# Altium integrated library Altera MAX II.IntLib: 48 symbols (part 1 of 4)
Pins are listed as number, name and electrical type; pins without a type are passive.

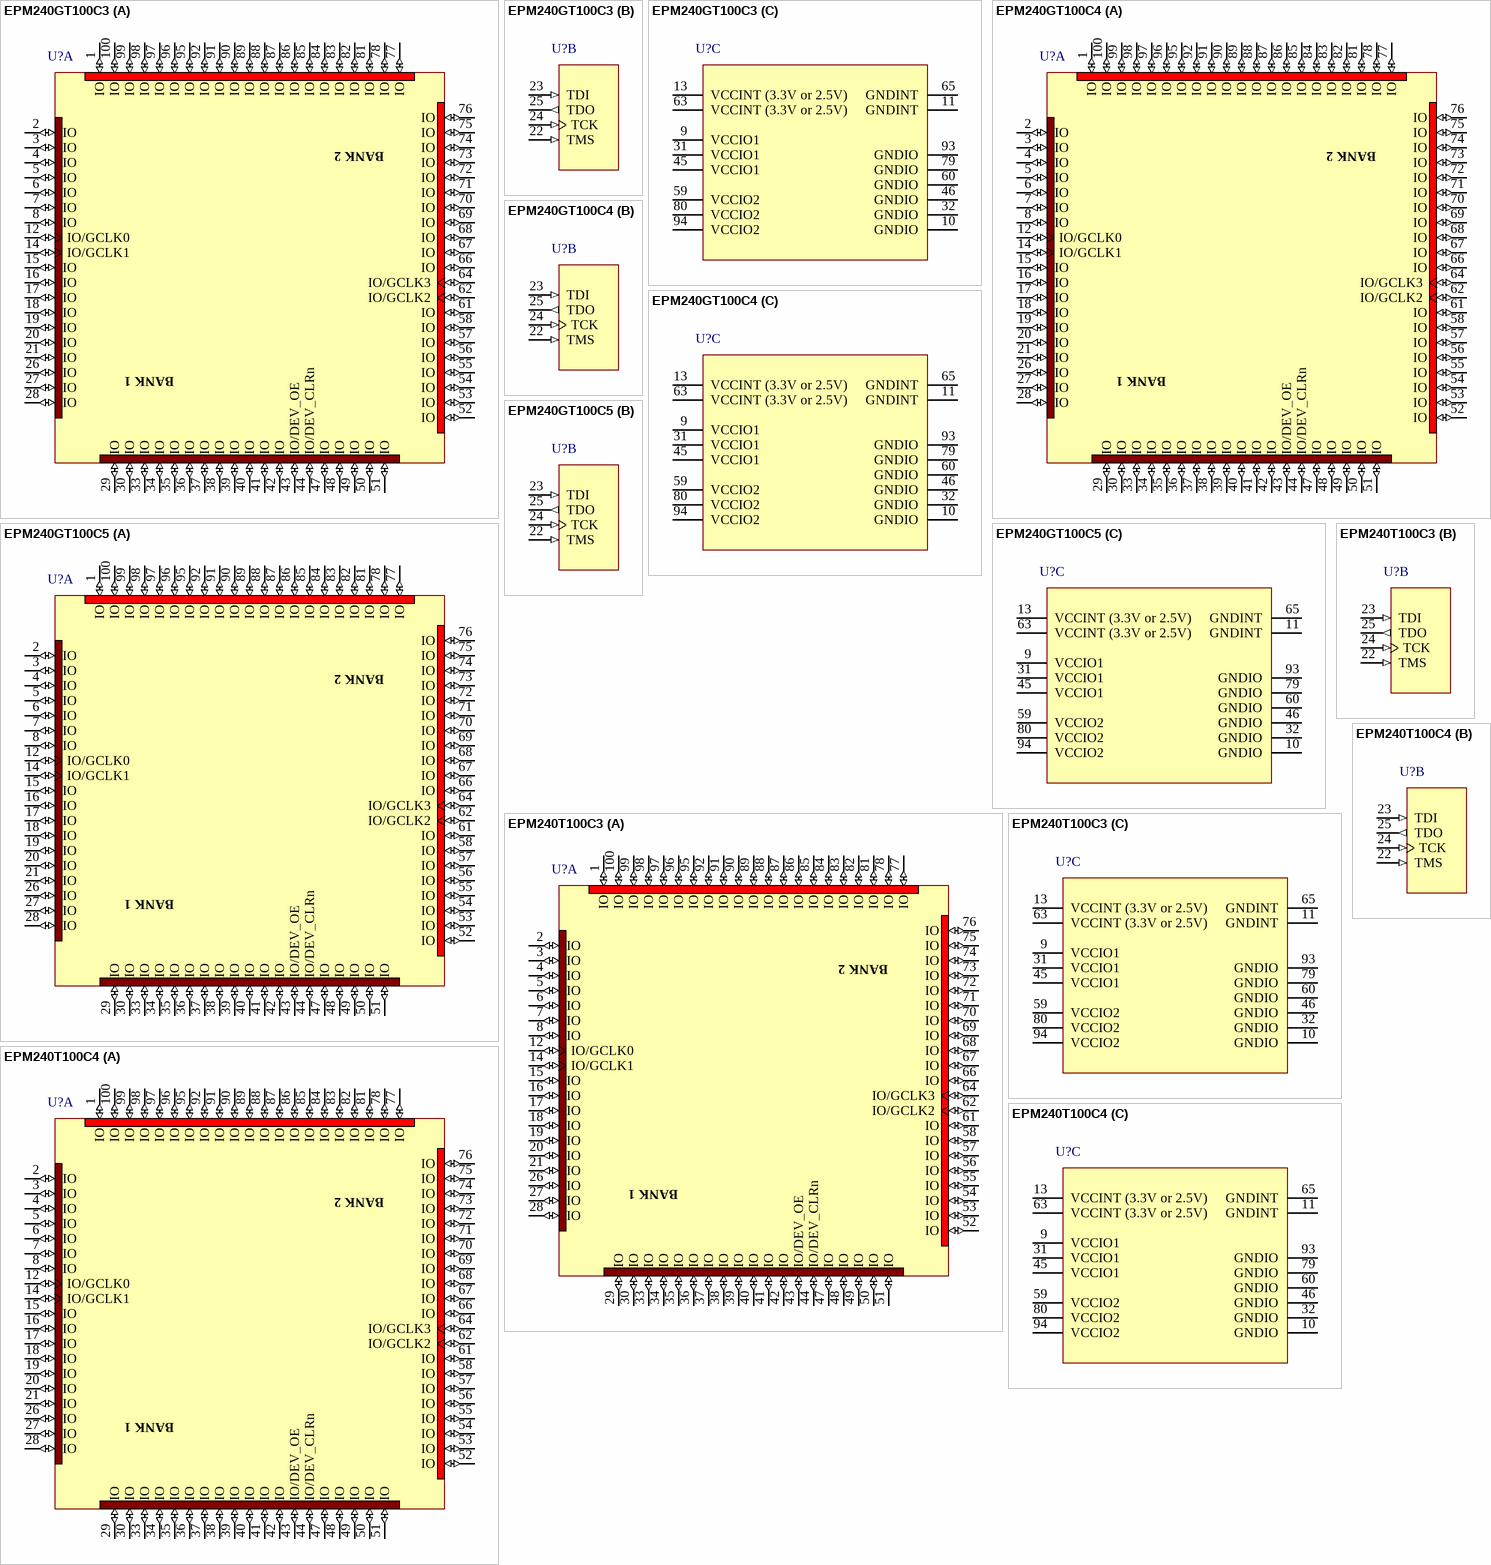
[diagram p0: symbols EPM240GT100C3 to EPM240T100C4]

## EPM240GT100C3
designator U?
MAX II 1.8V FPGA, 80 I/Os, 100-Pin Plastic TQFP, Commercial Temperature, Speed Grade 3; Note: Each set of VCCIO pins can be connected to 3.3V, 2.5V, 1.8V, or 1.5V.; Published: 15-Jul-2004; DatasheetDocument: ver1.1, Jun-2004; PackageDocument: Mar-2004; PackageReference: TQFP100; Publisher: Altium Limited; Code_JEDEC: MS-026-BDE; Code_IPC: SQFP14X14-100
footprint TQFP100 (100-Pin Plastic Thin Quad Flat Pack (TQFP))
part A pins: 1 IO (io), 2 IO (io), 3 IO (io), 4 IO (io), 5 IO (io), 6 IO (io), 7 IO (io), 8 IO (io), 12 IO/GCLK0 (io), 14 IO/GCLK1 (io), 15 IO (io), 16 IO (io), 17 IO (io), 18 IO (io), 19 IO (io), 20 IO (io), 21 IO (io), 26 IO (io), 27 IO (io), 28 IO (io), 29 IO (io), 30 IO (io), 33 IO (io), 34 IO (io), 35 IO (io), 36 IO (io), 37 IO (io), 38 IO (io), 39 IO (io), 40 IO (io), 41 IO (io), 42 IO (io), 43 IO/DEV_OE (io), 44 IO/DEV_CLRn (io), 47 IO (io), 48 IO (io), 49 IO (io), 50 IO (io), 51 IO (io), 52 IO (io), 53 IO (io), 54 IO (io), 55 IO (io), 56 IO (io), 57 IO (io), 58 IO (io), 61 IO (io), 62 IO/GCLK2 (io), 64 IO/GCLK3 (io), 66 IO (io), 67 IO (io), 68 IO (io), 69 IO (io), 70 IO (io), 71 IO (io), 72 IO (io), 73 IO (io), 74 IO (io), 75 IO (io), 76 IO (io), 77 IO (io), 78 IO (io), 81 IO (io), 82 IO (io), 83 IO (io), 84 IO (io), 85 IO (io), 86 IO (io), 87 IO (io), 88 IO (io), 89 IO (io), 90 IO (io), 91 IO (io), 92 IO (io), 95 IO (io), 96 IO (io), 97 IO (io), 98 IO (io), 99 IO (io), 100 IO (io)
part B pins: 22 TMS (in), 23 TDI (in), 24 TCK (in), 25 TDO (out)
part C pins: 9 VCCIO1 (power), 10 GNDIO (power), 11 GNDINT (power), 13 VCCINT (3.3V or 2.5V) (power), 31 VCCIO1 (power), 32 GNDIO (power), 45 VCCIO1 (power), 46 GNDIO (power), 59 VCCIO2 (power), 60 GNDIO (power), 63 VCCINT (3.3V or 2.5V) (power), 65 GNDINT (power), 79 GNDIO (power), 80 VCCIO2 (power), 93 GNDIO (power), 94 VCCIO2 (power)
part A text: BANK 2; BANK 1

## EPM240GT100C4
designator U?
MAX II 1.8V FPGA, 80 I/Os, 100-Pin Plastic TQFP, Commercial Temperature, Speed Grade 4; Note: Each set of VCCIO pins can be connected to 3.3V, 2.5V, 1.8V, or 1.5V.; Published: 15-Jul-2004; DatasheetDocument: ver1.1, Jun-2004; PackageDocument: Mar-2004; PackageReference: TQFP100; Publisher: Altium Limited; Code_JEDEC: MS-026-BDE; Code_IPC: SQFP14X14-100
footprint TQFP100 (100-Pin Plastic Thin Quad Flat Pack (TQFP))
part A pins: 1 IO (io), 2 IO (io), 3 IO (io), 4 IO (io), 5 IO (io), 6 IO (io), 7 IO (io), 8 IO (io), 12 IO/GCLK0 (io), 14 IO/GCLK1 (io), 15 IO (io), 16 IO (io), 17 IO (io), 18 IO (io), 19 IO (io), 20 IO (io), 21 IO (io), 26 IO (io), 27 IO (io), 28 IO (io), 29 IO (io), 30 IO (io), 33 IO (io), 34 IO (io), 35 IO (io), 36 IO (io), 37 IO (io), 38 IO (io), 39 IO (io), 40 IO (io), 41 IO (io), 42 IO (io), 43 IO/DEV_OE (io), 44 IO/DEV_CLRn (io), 47 IO (io), 48 IO (io), 49 IO (io), 50 IO (io), 51 IO (io), 52 IO (io), 53 IO (io), 54 IO (io), 55 IO (io), 56 IO (io), 57 IO (io), 58 IO (io), 61 IO (io), 62 IO/GCLK2 (io), 64 IO/GCLK3 (io), 66 IO (io), 67 IO (io), 68 IO (io), 69 IO (io), 70 IO (io), 71 IO (io), 72 IO (io), 73 IO (io), 74 IO (io), 75 IO (io), 76 IO (io), 77 IO (io), 78 IO (io), 81 IO (io), 82 IO (io), 83 IO (io), 84 IO (io), 85 IO (io), 86 IO (io), 87 IO (io), 88 IO (io), 89 IO (io), 90 IO (io), 91 IO (io), 92 IO (io), 95 IO (io), 96 IO (io), 97 IO (io), 98 IO (io), 99 IO (io), 100 IO (io)
part B pins: 22 TMS (in), 23 TDI (in), 24 TCK (in), 25 TDO (out)
part C pins: 9 VCCIO1 (power), 10 GNDIO (power), 11 GNDINT (power), 13 VCCINT (3.3V or 2.5V) (power), 31 VCCIO1 (power), 32 GNDIO (power), 45 VCCIO1 (power), 46 GNDIO (power), 59 VCCIO2 (power), 60 GNDIO (power), 63 VCCINT (3.3V or 2.5V) (power), 65 GNDINT (power), 79 GNDIO (power), 80 VCCIO2 (power), 93 GNDIO (power), 94 VCCIO2 (power)
part A text: BANK 2; BANK 1

## EPM240GT100C5
designator U?
MAX II 1.8V FPGA, 80 I/Os, 100-Pin Plastic TQFP, Commercial Temperature, Speed Grade 5; Note: Each set of VCCIO pins can be connected to 3.3V, 2.5V, 1.8V, or 1.5V.; Published: 15-Jul-2004; DatasheetDocument: ver1.1, Jun-2004; PackageDocument: Mar-2004; PackageReference: TQFP100; Publisher: Altium Limited; Code_JEDEC: MS-026-BDE; Code_IPC: SQFP14X14-100
footprint TQFP100 (100-Pin Plastic Thin Quad Flat Pack (TQFP))
part A pins: 1 IO (io), 2 IO (io), 3 IO (io), 4 IO (io), 5 IO (io), 6 IO (io), 7 IO (io), 8 IO (io), 12 IO/GCLK0 (io), 14 IO/GCLK1 (io), 15 IO (io), 16 IO (io), 17 IO (io), 18 IO (io), 19 IO (io), 20 IO (io), 21 IO (io), 26 IO (io), 27 IO (io), 28 IO (io), 29 IO (io), 30 IO (io), 33 IO (io), 34 IO (io), 35 IO (io), 36 IO (io), 37 IO (io), 38 IO (io), 39 IO (io), 40 IO (io), 41 IO (io), 42 IO (io), 43 IO/DEV_OE (io), 44 IO/DEV_CLRn (io), 47 IO (io), 48 IO (io), 49 IO (io), 50 IO (io), 51 IO (io), 52 IO (io), 53 IO (io), 54 IO (io), 55 IO (io), 56 IO (io), 57 IO (io), 58 IO (io), 61 IO (io), 62 IO/GCLK2 (io), 64 IO/GCLK3 (io), 66 IO (io), 67 IO (io), 68 IO (io), 69 IO (io), 70 IO (io), 71 IO (io), 72 IO (io), 73 IO (io), 74 IO (io), 75 IO (io), 76 IO (io), 77 IO (io), 78 IO (io), 81 IO (io), 82 IO (io), 83 IO (io), 84 IO (io), 85 IO (io), 86 IO (io), 87 IO (io), 88 IO (io), 89 IO (io), 90 IO (io), 91 IO (io), 92 IO (io), 95 IO (io), 96 IO (io), 97 IO (io), 98 IO (io), 99 IO (io), 100 IO (io)
part B pins: 22 TMS (in), 23 TDI (in), 24 TCK (in), 25 TDO (out)
part C pins: 9 VCCIO1 (power), 10 GNDIO (power), 11 GNDINT (power), 13 VCCINT (3.3V or 2.5V) (power), 31 VCCIO1 (power), 32 GNDIO (power), 45 VCCIO1 (power), 46 GNDIO (power), 59 VCCIO2 (power), 60 GNDIO (power), 63 VCCINT (3.3V or 2.5V) (power), 65 GNDINT (power), 79 GNDIO (power), 80 VCCIO2 (power), 93 GNDIO (power), 94 VCCIO2 (power)
part A text: BANK 2; BANK 1

## EPM240T100C3
designator U?
MAX II 2.5/3.3V FPGA, 80 I/Os, 100-Pin Plastic TQFP, Commercial Temperature, Speed Grade 3; Note: Each set of VCCIO pins can be connected to 3.3V, 2.5V, 1.8V, or 1.5V.; Published: 15-Jul-2004; DatasheetDocument: ver1.1, Jun-2004; PackageDocument: Mar-2004; PackageReference: TQFP100; Publisher: Altium Limited; Code_JEDEC: MS-026-BDE; Code_IPC: SQFP14X14-100
footprint TQFP100 (100-Pin Plastic Thin Quad Flat Pack (TQFP))
part A pins: 1 IO (io), 2 IO (io), 3 IO (io), 4 IO (io), 5 IO (io), 6 IO (io), 7 IO (io), 8 IO (io), 12 IO/GCLK0 (io), 14 IO/GCLK1 (io), 15 IO (io), 16 IO (io), 17 IO (io), 18 IO (io), 19 IO (io), 20 IO (io), 21 IO (io), 26 IO (io), 27 IO (io), 28 IO (io), 29 IO (io), 30 IO (io), 33 IO (io), 34 IO (io), 35 IO (io), 36 IO (io), 37 IO (io), 38 IO (io), 39 IO (io), 40 IO (io), 41 IO (io), 42 IO (io), 43 IO/DEV_OE (io), 44 IO/DEV_CLRn (io), 47 IO (io), 48 IO (io), 49 IO (io), 50 IO (io), 51 IO (io), 52 IO (io), 53 IO (io), 54 IO (io), 55 IO (io), 56 IO (io), 57 IO (io), 58 IO (io), 61 IO (io), 62 IO/GCLK2 (io), 64 IO/GCLK3 (io), 66 IO (io), 67 IO (io), 68 IO (io), 69 IO (io), 70 IO (io), 71 IO (io), 72 IO (io), 73 IO (io), 74 IO (io), 75 IO (io), 76 IO (io), 77 IO (io), 78 IO (io), 81 IO (io), 82 IO (io), 83 IO (io), 84 IO (io), 85 IO (io), 86 IO (io), 87 IO (io), 88 IO (io), 89 IO (io), 90 IO (io), 91 IO (io), 92 IO (io), 95 IO (io), 96 IO (io), 97 IO (io), 98 IO (io), 99 IO (io), 100 IO (io)
part B pins: 22 TMS (in), 23 TDI (in), 24 TCK (in), 25 TDO (out)
part C pins: 9 VCCIO1 (power), 10 GNDIO (power), 11 GNDINT (power), 13 VCCINT (3.3V or 2.5V) (power), 31 VCCIO1 (power), 32 GNDIO (power), 45 VCCIO1 (power), 46 GNDIO (power), 59 VCCIO2 (power), 60 GNDIO (power), 63 VCCINT (3.3V or 2.5V) (power), 65 GNDINT (power), 79 GNDIO (power), 80 VCCIO2 (power), 93 GNDIO (power), 94 VCCIO2 (power)
part A text: BANK 2; BANK 1

## EPM240T100C4
designator U?
MAX II 2.5/3.3V FPGA, 80 I/Os, 100-Pin Plastic TQFP, Commercial Temperature, Speed Grade 4; Note: Each set of VCCIO pins can be connected to 3.3V, 2.5V, 1.8V, or 1.5V.; Published: 15-Jul-2004; DatasheetDocument: ver1.1, Jun-2004; PackageDocument: Mar-2004; PackageReference: TQFP100; Publisher: Altium Limited; Code_JEDEC: MS-026-BDE; Code_IPC: SQFP14X14-100
footprint TQFP100 (100-Pin Plastic Thin Quad Flat Pack (TQFP))
part A pins: 1 IO (io), 2 IO (io), 3 IO (io), 4 IO (io), 5 IO (io), 6 IO (io), 7 IO (io), 8 IO (io), 12 IO/GCLK0 (io), 14 IO/GCLK1 (io), 15 IO (io), 16 IO (io), 17 IO (io), 18 IO (io), 19 IO (io), 20 IO (io), 21 IO (io), 26 IO (io), 27 IO (io), 28 IO (io), 29 IO (io), 30 IO (io), 33 IO (io), 34 IO (io), 35 IO (io), 36 IO (io), 37 IO (io), 38 IO (io), 39 IO (io), 40 IO (io), 41 IO (io), 42 IO (io), 43 IO/DEV_OE (io), 44 IO/DEV_CLRn (io), 47 IO (io), 48 IO (io), 49 IO (io), 50 IO (io), 51 IO (io), 52 IO (io), 53 IO (io), 54 IO (io), 55 IO (io), 56 IO (io), 57 IO (io), 58 IO (io), 61 IO (io), 62 IO/GCLK2 (io), 64 IO/GCLK3 (io), 66 IO (io), 67 IO (io), 68 IO (io), 69 IO (io), 70 IO (io), 71 IO (io), 72 IO (io), 73 IO (io), 74 IO (io), 75 IO (io), 76 IO (io), 77 IO (io), 78 IO (io), 81 IO (io), 82 IO (io), 83 IO (io), 84 IO (io), 85 IO (io), 86 IO (io), 87 IO (io), 88 IO (io), 89 IO (io), 90 IO (io), 91 IO (io), 92 IO (io), 95 IO (io), 96 IO (io), 97 IO (io), 98 IO (io), 99 IO (io), 100 IO (io)
part B pins: 22 TMS (in), 23 TDI (in), 24 TCK (in), 25 TDO (out)
part C pins: 9 VCCIO1 (power), 10 GNDIO (power), 11 GNDINT (power), 13 VCCINT (3.3V or 2.5V) (power), 31 VCCIO1 (power), 32 GNDIO (power), 45 VCCIO1 (power), 46 GNDIO (power), 59 VCCIO2 (power), 60 GNDIO (power), 63 VCCINT (3.3V or 2.5V) (power), 65 GNDINT (power), 79 GNDIO (power), 80 VCCIO2 (power), 93 GNDIO (power), 94 VCCIO2 (power)
part A text: BANK 2; BANK 1

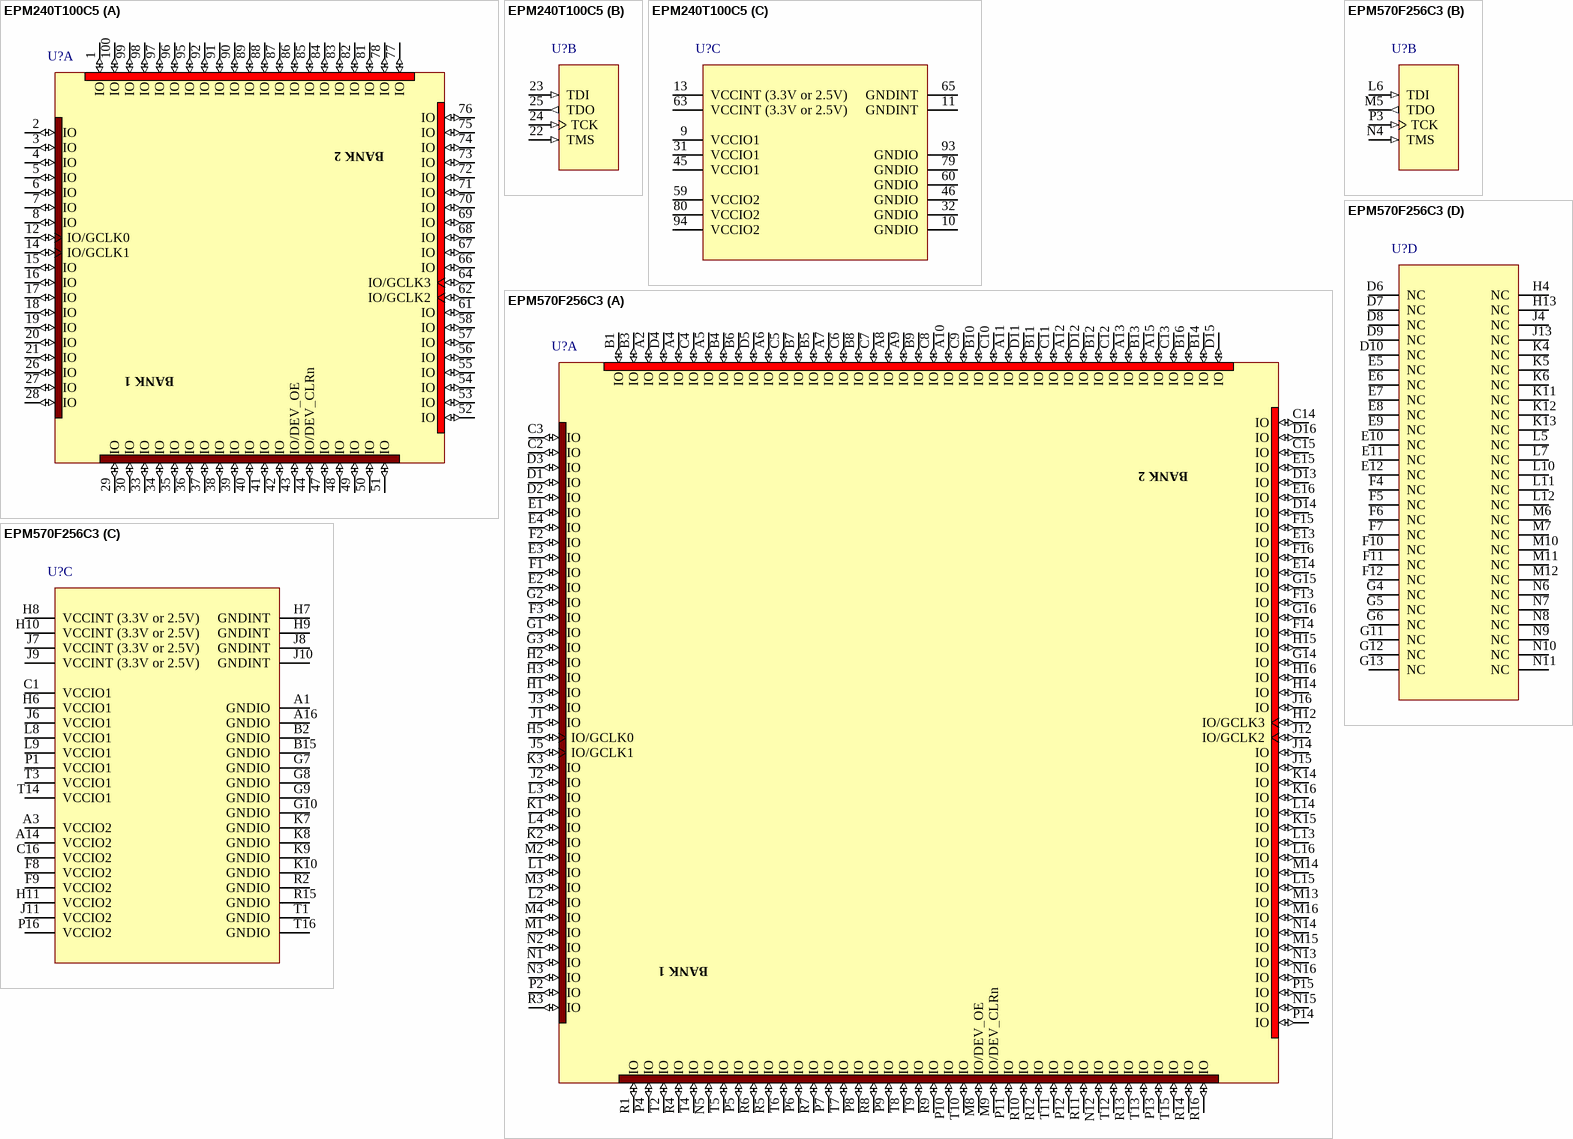
[diagram p1: symbols EPM240T100C5 to EPM570F256C3]

## EPM240T100C5
designator U?
MAX II 2.5/3.3V FPGA, 80 I/Os, 100-Pin Plastic TQFP, Commercial Temperature, Speed Grade 5; Note: Each set of VCCIO pins can be connected to 3.3V, 2.5V, 1.8V, or 1.5V.; Published: 15-Jul-2004; DatasheetDocument: ver1.1, Jun-2004; PackageDocument: Mar-2004; PackageReference: TQFP100; Publisher: Altium Limited; Code_JEDEC: MS-026-BDE; Code_IPC: SQFP14X14-100
footprint TQFP100 (100-Pin Plastic Thin Quad Flat Pack (TQFP))
part A pins: 1 IO (io), 2 IO (io), 3 IO (io), 4 IO (io), 5 IO (io), 6 IO (io), 7 IO (io), 8 IO (io), 12 IO/GCLK0 (io), 14 IO/GCLK1 (io), 15 IO (io), 16 IO (io), 17 IO (io), 18 IO (io), 19 IO (io), 20 IO (io), 21 IO (io), 26 IO (io), 27 IO (io), 28 IO (io), 29 IO (io), 30 IO (io), 33 IO (io), 34 IO (io), 35 IO (io), 36 IO (io), 37 IO (io), 38 IO (io), 39 IO (io), 40 IO (io), 41 IO (io), 42 IO (io), 43 IO/DEV_OE (io), 44 IO/DEV_CLRn (io), 47 IO (io), 48 IO (io), 49 IO (io), 50 IO (io), 51 IO (io), 52 IO (io), 53 IO (io), 54 IO (io), 55 IO (io), 56 IO (io), 57 IO (io), 58 IO (io), 61 IO (io), 62 IO/GCLK2 (io), 64 IO/GCLK3 (io), 66 IO (io), 67 IO (io), 68 IO (io), 69 IO (io), 70 IO (io), 71 IO (io), 72 IO (io), 73 IO (io), 74 IO (io), 75 IO (io), 76 IO (io), 77 IO (io), 78 IO (io), 81 IO (io), 82 IO (io), 83 IO (io), 84 IO (io), 85 IO (io), 86 IO (io), 87 IO (io), 88 IO (io), 89 IO (io), 90 IO (io), 91 IO (io), 92 IO (io), 95 IO (io), 96 IO (io), 97 IO (io), 98 IO (io), 99 IO (io), 100 IO (io)
part B pins: 22 TMS (in), 23 TDI (in), 24 TCK (in), 25 TDO (out)
part C pins: 9 VCCIO1 (power), 10 GNDIO (power), 11 GNDINT (power), 13 VCCINT (3.3V or 2.5V) (power), 31 VCCIO1 (power), 32 GNDIO (power), 45 VCCIO1 (power), 46 GNDIO (power), 59 VCCIO2 (power), 60 GNDIO (power), 63 VCCINT (3.3V or 2.5V) (power), 65 GNDINT (power), 79 GNDIO (power), 80 VCCIO2 (power), 93 GNDIO (power), 94 VCCIO2 (power)
part A text: BANK 2; BANK 1

## EPM570F256C3
designator U?
MAX II 2.5/3.3V FPGA, 160 I/Os, 256-Pin Non-Thermally Enhanced FBGA, Commercial Temperature, Speed Grade 3; Note: Each set of VCCIO pins can be connected to 3.3V, 2.5V, 1.8V, or 1.5V.; Published: 15-Jul-2004; DatasheetDocument: ver1.1, Jun-2004; PackageDocument: Mar-2004; PackageReference: FBGA256; Publisher: Altium Limited; Code_JEDEC: MS-034-AAF-1; Code_IPC: PBGA 17X17 FE256
footprint FBGA256 (256-Pin Non-Thermally Enhanced FineLine Ball-Grid Array (FBGA))
part A pins: A2 IO (io), A4 IO (io), A5 IO (io), A6 IO (io), A7 IO (io), A8 IO (io), A9 IO (io), A10 IO (io), A11 IO (io), A12 IO (io), A13 IO (io), A15 IO (io), B1 IO (io), B3 IO (io), B4 IO (io), B5 IO (io), B6 IO (io), B7 IO (io), B8 IO (io), B9 IO (io), B10 IO (io), B11 IO (io), B12 IO (io), B13 IO (io), B14 IO (io), B16 IO (io), C2 IO (io), C3 IO (io), C4 IO (io), C5 IO (io), C6 IO (io), C7 IO (io), C8 IO (io), C9 IO (io), C10 IO (io), C11 IO (io), C12 IO (io), C13 IO (io), C14 IO (io), C15 IO (io), D1 IO (io), D2 IO (io), D3 IO (io), D4 IO (io), D5 IO (io), D11 IO (io), D12 IO (io), D13 IO (io), D14 IO (io), D15 IO (io), D16 IO (io), E1 IO (io), E2 IO (io), E3 IO (io), E4 IO (io), E13 IO (io), E14 IO (io), E15 IO (io), E16 IO (io), F1 IO (io), F2 IO (io), F3 IO (io), F13 IO (io), F14 IO (io), F15 IO (io), F16 IO (io), G1 IO (io), G2 IO (io), G3 IO (io), G14 IO (io), G15 IO (io), G16 IO (io), H1 IO (io), H2 IO (io), H3 IO (io), H5 IO/GCLK0 (io), H12 IO/GCLK3 (io), H14 IO (io), H15 IO (io), H16 IO (io), J1 IO (io), J2 IO (io), J3 IO (io), J5 IO/GCLK1 (io), J12 IO/GCLK2 (io), J14 IO (io), J15 IO (io), J16 IO (io), K1 IO (io), K2 IO (io), K3 IO (io), K14 IO (io), K15 IO (io), K16 IO (io), L1 IO (io), L2 IO (io), L3 IO (io), L4 IO (io), L13 IO (io), L14 IO (io), L15 IO (io), L16 IO (io), M1 IO (io), M2 IO (io), M3 IO (io), M4 IO (io), M8 IO/DEV_OE (io), M9 IO/DEV_CLRn (io), M13 IO (io), M14 IO (io), M15 IO (io), M16 IO (io), N1 IO (io), N2 IO (io), N3 IO (io), N5 IO (io), N12 IO (io), N13 IO (io), N14 IO (io), N15 IO (io), N16 IO (io), P2 IO (io), P4 IO (io), P5 IO (io), P6 IO (io), P7 IO (io), P8 IO (io), P9 IO (io), P10 IO (io), P11 IO (io), P12 IO (io), P13 IO (io), P14 IO (io), P15 IO (io), R1 IO (io), R3 IO (io), R4 IO (io), R5 IO (io), R6 IO (io), R7 IO (io), R8 IO (io), R9 IO (io), R10 IO (io), R11 IO (io), R12 IO (io), R13 IO (io), R14 IO (io), R16 IO (io), T2 IO (io), T4 IO (io), T5 IO (io), T6 IO (io), T7 IO (io), T8 IO (io), T9 IO (io), T10 IO (io), T11 IO (io), T12 IO (io), T13 IO (io), T15 IO (io)
part B pins: L6 TDI (in), M5 TDO (out), N4 TMS (in), P3 TCK (in)
part C pins: A1 GNDIO (power), A3 VCCIO2 (power), A14 VCCIO2 (power), A16 GNDIO (power), B2 GNDIO (power), B15 GNDIO (power), C1 VCCIO1 (power), C16 VCCIO2 (power), F8 VCCIO2 (power), F9 VCCIO2 (power), G7 GNDIO (power), G8 GNDIO (power), G9 GNDIO (power), G10 GNDIO (power), H6 VCCIO1 (power), H7 GNDINT (power), H8 VCCINT (3.3V or 2.5V) (power), H9 GNDINT (power), H10 VCCINT (3.3V or 2.5V) (power), H11 VCCIO2 (power), J6 VCCIO1 (power), J7 VCCINT (3.3V or 2.5V) (power), J8 GNDINT (power), J9 VCCINT (3.3V or 2.5V) (power), J10 GNDINT (power), J11 VCCIO2 (power), K7 GNDIO (power), K8 GNDIO (power), K9 GNDIO (power), K10 GNDIO (power), L8 VCCIO1 (power), L9 VCCIO1 (power), P1 VCCIO1 (power), P16 VCCIO2 (power), R2 GNDIO (power), R15 GNDIO (power), T1 GNDIO (power), T3 VCCIO1 (power), T14 VCCIO1 (power), T16 GNDIO (power)
part D pins: D6 NC, D7 NC, D8 NC, D9 NC, D10 NC, E5 NC, E6 NC, E7 NC, E8 NC, E9 NC, E10 NC, E11 NC, E12 NC, F4 NC, F5 NC, F6 NC, F7 NC, F10 NC, F11 NC, F12 NC, G4 NC, G5 NC, G6 NC, G11 NC, G12 NC, G13 NC, H4 NC, H13 NC, J4 NC, J13 NC, K4 NC, K5 NC, K6 NC, K11 NC, K12 NC, K13 NC, L5 NC, L7 NC, L10 NC, L11 NC, L12 NC, M6 NC, M7 NC, M10 NC, M11 NC, M12 NC, N6 NC, N7 NC, N8 NC, N9 NC, N10 NC, N11 NC
part A text: BANK 2; BANK 1

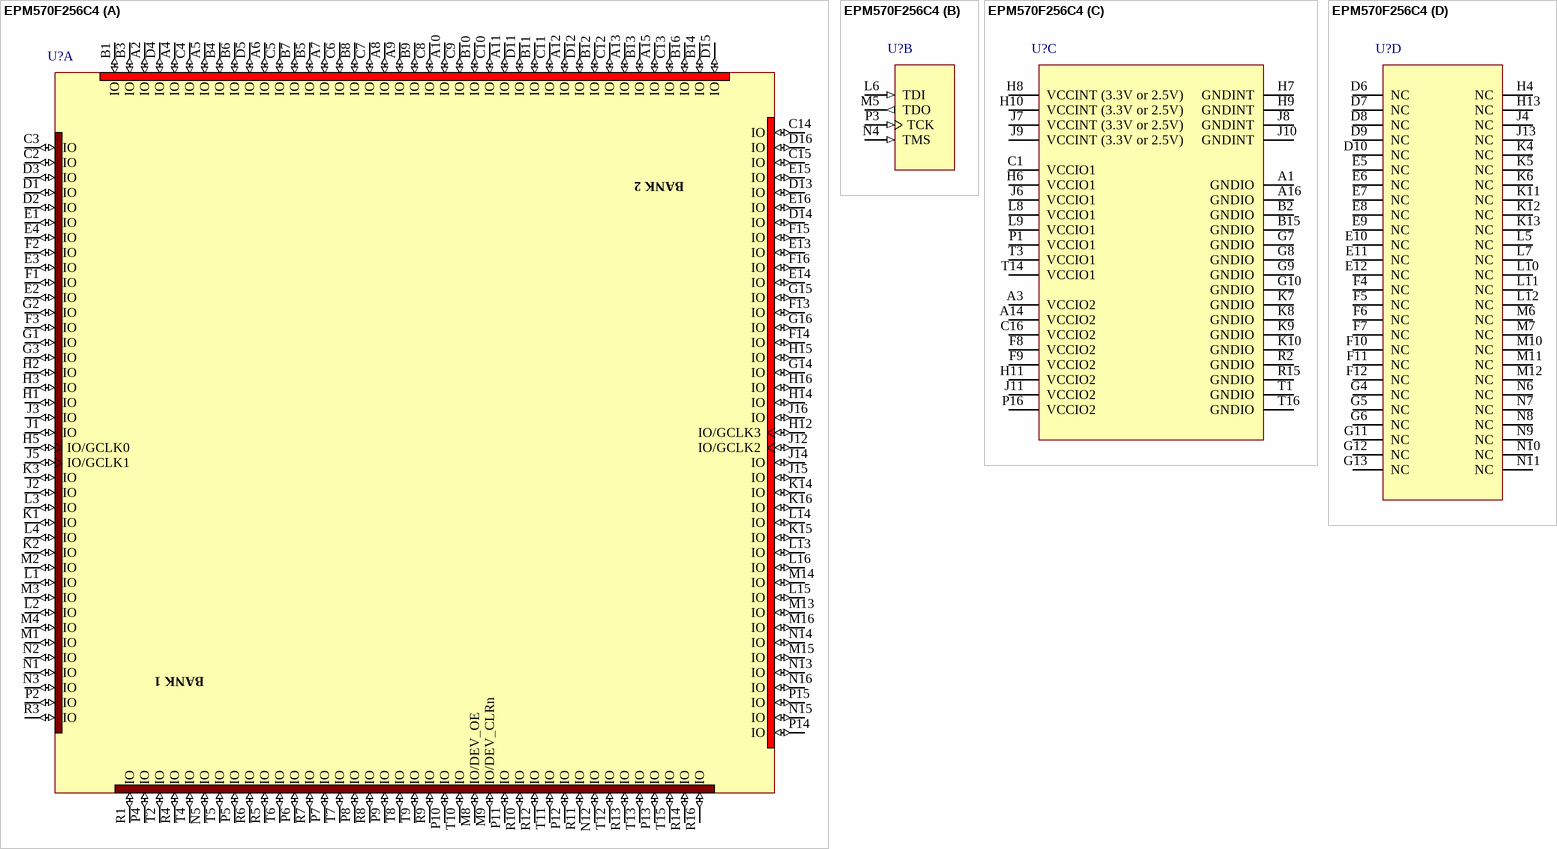
[diagram p2: symbol EPM570F256C4]

## EPM570F256C4
designator U?
MAX II 2.5/3.3V FPGA, 160 I/Os, 256-Pin Non-Thermally Enhanced FBGA, Commercial Temperature, Speed Grade 4; Note: Each set of VCCIO pins can be connected to 3.3V, 2.5V, 1.8V, or 1.5V.; Published: 15-Jul-2004; DatasheetDocument: ver1.1, Jun-2004; PackageDocument: Mar-2004; PackageReference: FBGA256; Publisher: Altium Limited; Code_JEDEC: MS-034-AAF-1; Code_IPC: PBGA 17X17 FE256
footprint FBGA256 (256-Pin Non-Thermally Enhanced FineLine Ball-Grid Array (FBGA))
part A pins: A2 IO (io), A4 IO (io), A5 IO (io), A6 IO (io), A7 IO (io), A8 IO (io), A9 IO (io), A10 IO (io), A11 IO (io), A12 IO (io), A13 IO (io), A15 IO (io), B1 IO (io), B3 IO (io), B4 IO (io), B5 IO (io), B6 IO (io), B7 IO (io), B8 IO (io), B9 IO (io), B10 IO (io), B11 IO (io), B12 IO (io), B13 IO (io), B14 IO (io), B16 IO (io), C2 IO (io), C3 IO (io), C4 IO (io), C5 IO (io), C6 IO (io), C7 IO (io), C8 IO (io), C9 IO (io), C10 IO (io), C11 IO (io), C12 IO (io), C13 IO (io), C14 IO (io), C15 IO (io), D1 IO (io), D2 IO (io), D3 IO (io), D4 IO (io), D5 IO (io), D11 IO (io), D12 IO (io), D13 IO (io), D14 IO (io), D15 IO (io), D16 IO (io), E1 IO (io), E2 IO (io), E3 IO (io), E4 IO (io), E13 IO (io), E14 IO (io), E15 IO (io), E16 IO (io), F1 IO (io), F2 IO (io), F3 IO (io), F13 IO (io), F14 IO (io), F15 IO (io), F16 IO (io), G1 IO (io), G2 IO (io), G3 IO (io), G14 IO (io), G15 IO (io), G16 IO (io), H1 IO (io), H2 IO (io), H3 IO (io), H5 IO/GCLK0 (io), H12 IO/GCLK3 (io), H14 IO (io), H15 IO (io), H16 IO (io), J1 IO (io), J2 IO (io), J3 IO (io), J5 IO/GCLK1 (io), J12 IO/GCLK2 (io), J14 IO (io), J15 IO (io), J16 IO (io), K1 IO (io), K2 IO (io), K3 IO (io), K14 IO (io), K15 IO (io), K16 IO (io), L1 IO (io), L2 IO (io), L3 IO (io), L4 IO (io), L13 IO (io), L14 IO (io), L15 IO (io), L16 IO (io), M1 IO (io), M2 IO (io), M3 IO (io), M4 IO (io), M8 IO/DEV_OE (io), M9 IO/DEV_CLRn (io), M13 IO (io), M14 IO (io), M15 IO (io), M16 IO (io), N1 IO (io), N2 IO (io), N3 IO (io), N5 IO (io), N12 IO (io), N13 IO (io), N14 IO (io), N15 IO (io), N16 IO (io), P2 IO (io), P4 IO (io), P5 IO (io), P6 IO (io), P7 IO (io), P8 IO (io), P9 IO (io), P10 IO (io), P11 IO (io), P12 IO (io), P13 IO (io), P14 IO (io), P15 IO (io), R1 IO (io), R3 IO (io), R4 IO (io), R5 IO (io), R6 IO (io), R7 IO (io), R8 IO (io), R9 IO (io), R10 IO (io), R11 IO (io), R12 IO (io), R13 IO (io), R14 IO (io), R16 IO (io), T2 IO (io), T4 IO (io), T5 IO (io), T6 IO (io), T7 IO (io), T8 IO (io), T9 IO (io), T10 IO (io), T11 IO (io), T12 IO (io), T13 IO (io), T15 IO (io)
part B pins: L6 TDI (in), M5 TDO (out), N4 TMS (in), P3 TCK (in)
part C pins: A1 GNDIO (power), A3 VCCIO2 (power), A14 VCCIO2 (power), A16 GNDIO (power), B2 GNDIO (power), B15 GNDIO (power), C1 VCCIO1 (power), C16 VCCIO2 (power), F8 VCCIO2 (power), F9 VCCIO2 (power), G7 GNDIO (power), G8 GNDIO (power), G9 GNDIO (power), G10 GNDIO (power), H6 VCCIO1 (power), H7 GNDINT (power), H8 VCCINT (3.3V or 2.5V) (power), H9 GNDINT (power), H10 VCCINT (3.3V or 2.5V) (power), H11 VCCIO2 (power), J6 VCCIO1 (power), J7 VCCINT (3.3V or 2.5V) (power), J8 GNDINT (power), J9 VCCINT (3.3V or 2.5V) (power), J10 GNDINT (power), J11 VCCIO2 (power), K7 GNDIO (power), K8 GNDIO (power), K9 GNDIO (power), K10 GNDIO (power), L8 VCCIO1 (power), L9 VCCIO1 (power), P1 VCCIO1 (power), P16 VCCIO2 (power), R2 GNDIO (power), R15 GNDIO (power), T1 GNDIO (power), T3 VCCIO1 (power), T14 VCCIO1 (power), T16 GNDIO (power)
part D pins: D6 NC, D7 NC, D8 NC, D9 NC, D10 NC, E5 NC, E6 NC, E7 NC, E8 NC, E9 NC, E10 NC, E11 NC, E12 NC, F4 NC, F5 NC, F6 NC, F7 NC, F10 NC, F11 NC, F12 NC, G4 NC, G5 NC, G6 NC, G11 NC, G12 NC, G13 NC, H4 NC, H13 NC, J4 NC, J13 NC, K4 NC, K5 NC, K6 NC, K11 NC, K12 NC, K13 NC, L5 NC, L7 NC, L10 NC, L11 NC, L12 NC, M6 NC, M7 NC, M10 NC, M11 NC, M12 NC, N6 NC, N7 NC, N8 NC, N9 NC, N10 NC, N11 NC
part A text: BANK 2; BANK 1

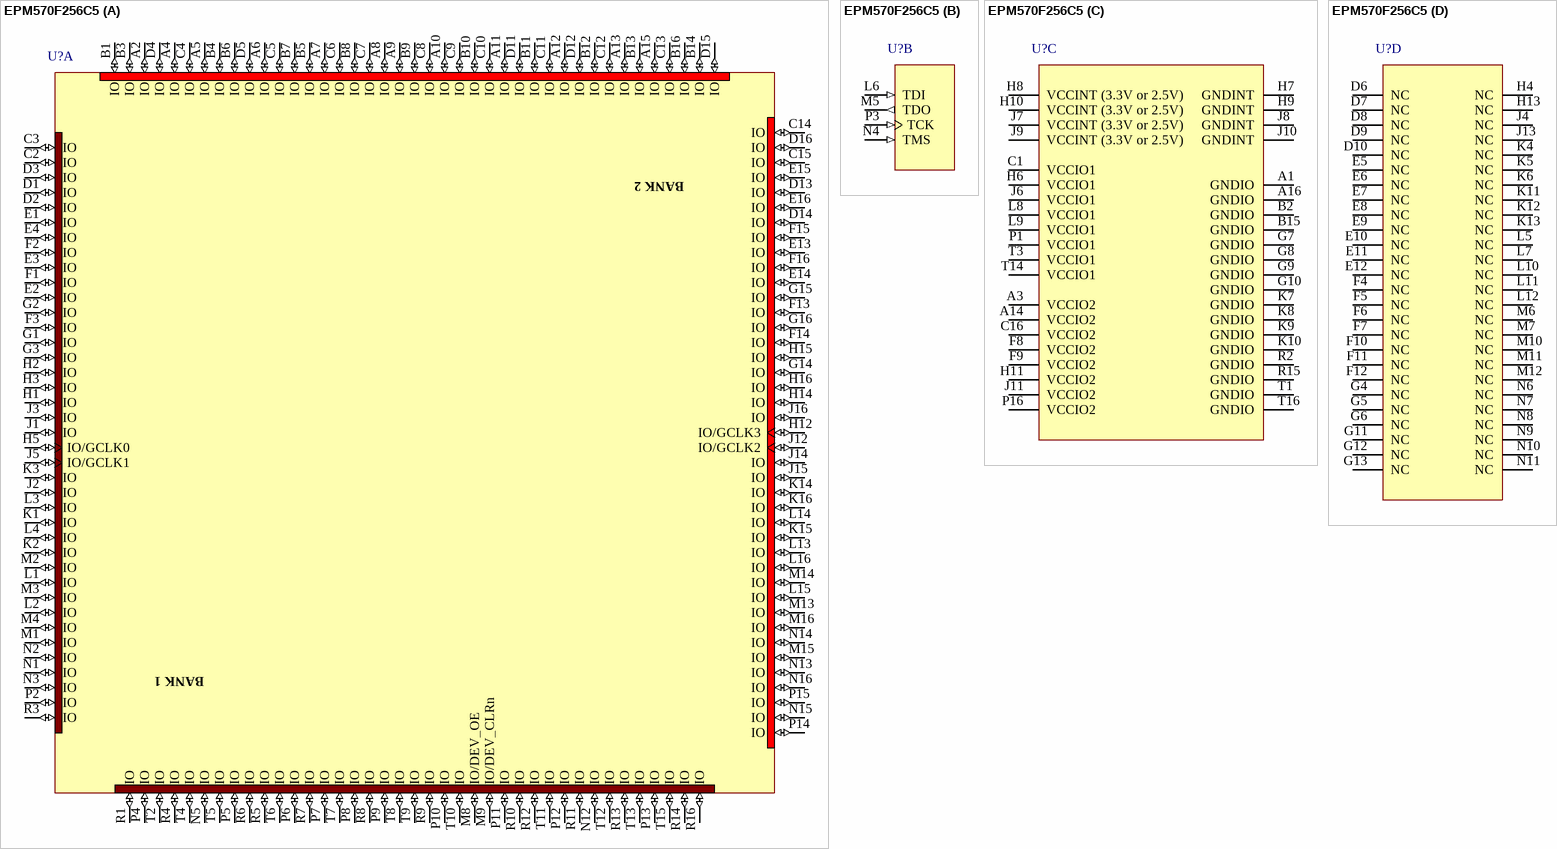
[diagram p3: symbol EPM570F256C5]

## EPM570F256C5
designator U?
MAX II 2.5/3.3V FPGA, 160 I/Os, 256-Pin Non-Thermally Enhanced FBGA, Commercial Temperature, Speed Grade 5; Note: Each set of VCCIO pins can be connected to 3.3V, 2.5V, 1.8V, or 1.5V.; Published: 15-Jul-2004; DatasheetDocument: ver1.1, Jun-2004; PackageDocument: Mar-2004; PackageReference: FBGA256; Publisher: Altium Limited; Code_JEDEC: MS-034-AAF-1; Code_IPC: PBGA 17X17 FE256
footprint FBGA256 (256-Pin Non-Thermally Enhanced FineLine Ball-Grid Array (FBGA))
part A pins: A2 IO (io), A4 IO (io), A5 IO (io), A6 IO (io), A7 IO (io), A8 IO (io), A9 IO (io), A10 IO (io), A11 IO (io), A12 IO (io), A13 IO (io), A15 IO (io), B1 IO (io), B3 IO (io), B4 IO (io), B5 IO (io), B6 IO (io), B7 IO (io), B8 IO (io), B9 IO (io), B10 IO (io), B11 IO (io), B12 IO (io), B13 IO (io), B14 IO (io), B16 IO (io), C2 IO (io), C3 IO (io), C4 IO (io), C5 IO (io), C6 IO (io), C7 IO (io), C8 IO (io), C9 IO (io), C10 IO (io), C11 IO (io), C12 IO (io), C13 IO (io), C14 IO (io), C15 IO (io), D1 IO (io), D2 IO (io), D3 IO (io), D4 IO (io), D5 IO (io), D11 IO (io), D12 IO (io), D13 IO (io), D14 IO (io), D15 IO (io), D16 IO (io), E1 IO (io), E2 IO (io), E3 IO (io), E4 IO (io), E13 IO (io), E14 IO (io), E15 IO (io), E16 IO (io), F1 IO (io), F2 IO (io), F3 IO (io), F13 IO (io), F14 IO (io), F15 IO (io), F16 IO (io), G1 IO (io), G2 IO (io), G3 IO (io), G14 IO (io), G15 IO (io), G16 IO (io), H1 IO (io), H2 IO (io), H3 IO (io), H5 IO/GCLK0 (io), H12 IO/GCLK3 (io), H14 IO (io), H15 IO (io), H16 IO (io), J1 IO (io), J2 IO (io), J3 IO (io), J5 IO/GCLK1 (io), J12 IO/GCLK2 (io), J14 IO (io), J15 IO (io), J16 IO (io), K1 IO (io), K2 IO (io), K3 IO (io), K14 IO (io), K15 IO (io), K16 IO (io), L1 IO (io), L2 IO (io), L3 IO (io), L4 IO (io), L13 IO (io), L14 IO (io), L15 IO (io), L16 IO (io), M1 IO (io), M2 IO (io), M3 IO (io), M4 IO (io), M8 IO/DEV_OE (io), M9 IO/DEV_CLRn (io), M13 IO (io), M14 IO (io), M15 IO (io), M16 IO (io), N1 IO (io), N2 IO (io), N3 IO (io), N5 IO (io), N12 IO (io), N13 IO (io), N14 IO (io), N15 IO (io), N16 IO (io), P2 IO (io), P4 IO (io), P5 IO (io), P6 IO (io), P7 IO (io), P8 IO (io), P9 IO (io), P10 IO (io), P11 IO (io), P12 IO (io), P13 IO (io), P14 IO (io), P15 IO (io), R1 IO (io), R3 IO (io), R4 IO (io), R5 IO (io), R6 IO (io), R7 IO (io), R8 IO (io), R9 IO (io), R10 IO (io), R11 IO (io), R12 IO (io), R13 IO (io), R14 IO (io), R16 IO (io), T2 IO (io), T4 IO (io), T5 IO (io), T6 IO (io), T7 IO (io), T8 IO (io), T9 IO (io), T10 IO (io), T11 IO (io), T12 IO (io), T13 IO (io), T15 IO (io)
part B pins: L6 TDI (in), M5 TDO (out), N4 TMS (in), P3 TCK (in)
part C pins: A1 GNDIO (power), A3 VCCIO2 (power), A14 VCCIO2 (power), A16 GNDIO (power), B2 GNDIO (power), B15 GNDIO (power), C1 VCCIO1 (power), C16 VCCIO2 (power), F8 VCCIO2 (power), F9 VCCIO2 (power), G7 GNDIO (power), G8 GNDIO (power), G9 GNDIO (power), G10 GNDIO (power), H6 VCCIO1 (power), H7 GNDINT (power), H8 VCCINT (3.3V or 2.5V) (power), H9 GNDINT (power), H10 VCCINT (3.3V or 2.5V) (power), H11 VCCIO2 (power), J6 VCCIO1 (power), J7 VCCINT (3.3V or 2.5V) (power), J8 GNDINT (power), J9 VCCINT (3.3V or 2.5V) (power), J10 GNDINT (power), J11 VCCIO2 (power), K7 GNDIO (power), K8 GNDIO (power), K9 GNDIO (power), K10 GNDIO (power), L8 VCCIO1 (power), L9 VCCIO1 (power), P1 VCCIO1 (power), P16 VCCIO2 (power), R2 GNDIO (power), R15 GNDIO (power), T1 GNDIO (power), T3 VCCIO1 (power), T14 VCCIO1 (power), T16 GNDIO (power)
part D pins: D6 NC, D7 NC, D8 NC, D9 NC, D10 NC, E5 NC, E6 NC, E7 NC, E8 NC, E9 NC, E10 NC, E11 NC, E12 NC, F4 NC, F5 NC, F6 NC, F7 NC, F10 NC, F11 NC, F12 NC, G4 NC, G5 NC, G6 NC, G11 NC, G12 NC, G13 NC, H4 NC, H13 NC, J4 NC, J13 NC, K4 NC, K5 NC, K6 NC, K11 NC, K12 NC, K13 NC, L5 NC, L7 NC, L10 NC, L11 NC, L12 NC, M6 NC, M7 NC, M10 NC, M11 NC, M12 NC, N6 NC, N7 NC, N8 NC, N9 NC, N10 NC, N11 NC
part A text: BANK 2; BANK 1

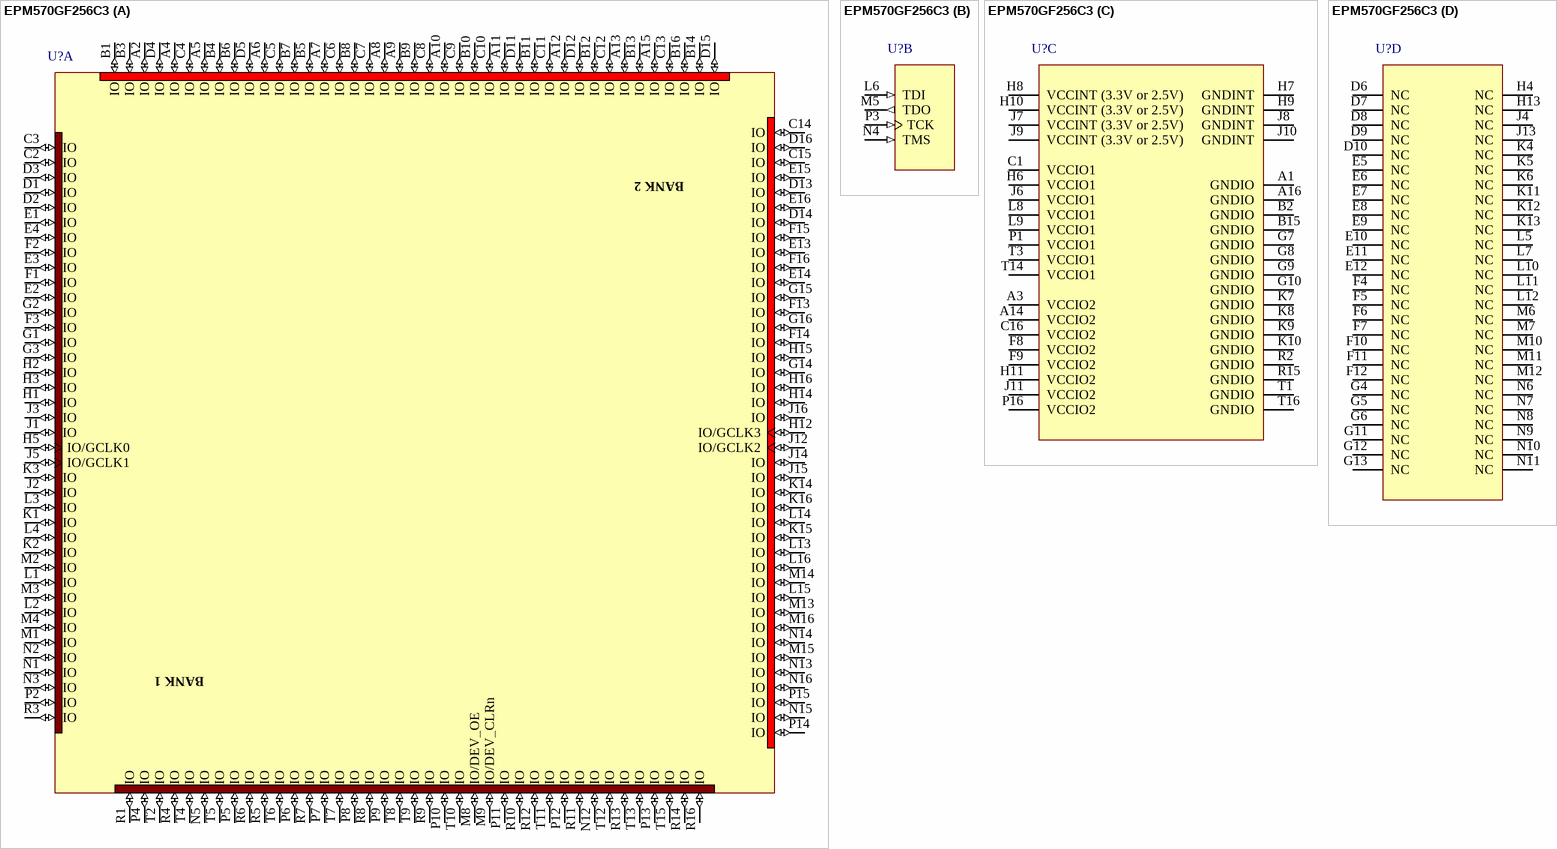
[diagram p4: symbol EPM570GF256C3]

## EPM570GF256C3
designator U?
MAX II 1.8V FPGA, 160 I/Os, 256-Pin Non-Thermally Enhanced FBGA, Commercial Temperature, Speed Grade 3; Note: Each set of VCCIO pins can be connected to 3.3V, 2.5V, 1.8V, or 1.5V.; Published: 15-Jul-2004; DatasheetDocument: ver1.1, Jun-2004; PackageDocument: Mar-2004; PackageReference: FBGA256; Publisher: Altium Limited; Code_JEDEC: MS-034-AAF-1; Code_IPC: PBGA 17X17 FE256
footprint FBGA256 (256-Pin Non-Thermally Enhanced FineLine Ball-Grid Array (FBGA))
part A pins: A2 IO (io), A4 IO (io), A5 IO (io), A6 IO (io), A7 IO (io), A8 IO (io), A9 IO (io), A10 IO (io), A11 IO (io), A12 IO (io), A13 IO (io), A15 IO (io), B1 IO (io), B3 IO (io), B4 IO (io), B5 IO (io), B6 IO (io), B7 IO (io), B8 IO (io), B9 IO (io), B10 IO (io), B11 IO (io), B12 IO (io), B13 IO (io), B14 IO (io), B16 IO (io), C2 IO (io), C3 IO (io), C4 IO (io), C5 IO (io), C6 IO (io), C7 IO (io), C8 IO (io), C9 IO (io), C10 IO (io), C11 IO (io), C12 IO (io), C13 IO (io), C14 IO (io), C15 IO (io), D1 IO (io), D2 IO (io), D3 IO (io), D4 IO (io), D5 IO (io), D11 IO (io), D12 IO (io), D13 IO (io), D14 IO (io), D15 IO (io), D16 IO (io), E1 IO (io), E2 IO (io), E3 IO (io), E4 IO (io), E13 IO (io), E14 IO (io), E15 IO (io), E16 IO (io), F1 IO (io), F2 IO (io), F3 IO (io), F13 IO (io), F14 IO (io), F15 IO (io), F16 IO (io), G1 IO (io), G2 IO (io), G3 IO (io), G14 IO (io), G15 IO (io), G16 IO (io), H1 IO (io), H2 IO (io), H3 IO (io), H5 IO/GCLK0 (io), H12 IO/GCLK3 (io), H14 IO (io), H15 IO (io), H16 IO (io), J1 IO (io), J2 IO (io), J3 IO (io), J5 IO/GCLK1 (io), J12 IO/GCLK2 (io), J14 IO (io), J15 IO (io), J16 IO (io), K1 IO (io), K2 IO (io), K3 IO (io), K14 IO (io), K15 IO (io), K16 IO (io), L1 IO (io), L2 IO (io), L3 IO (io), L4 IO (io), L13 IO (io), L14 IO (io), L15 IO (io), L16 IO (io), M1 IO (io), M2 IO (io), M3 IO (io), M4 IO (io), M8 IO/DEV_OE (io), M9 IO/DEV_CLRn (io), M13 IO (io), M14 IO (io), M15 IO (io), M16 IO (io), N1 IO (io), N2 IO (io), N3 IO (io), N5 IO (io), N12 IO (io), N13 IO (io), N14 IO (io), N15 IO (io), N16 IO (io), P2 IO (io), P4 IO (io), P5 IO (io), P6 IO (io), P7 IO (io), P8 IO (io), P9 IO (io), P10 IO (io), P11 IO (io), P12 IO (io), P13 IO (io), P14 IO (io), P15 IO (io), R1 IO (io), R3 IO (io), R4 IO (io), R5 IO (io), R6 IO (io), R7 IO (io), R8 IO (io), R9 IO (io), R10 IO (io), R11 IO (io), R12 IO (io), R13 IO (io), R14 IO (io), R16 IO (io), T2 IO (io), T4 IO (io), T5 IO (io), T6 IO (io), T7 IO (io), T8 IO (io), T9 IO (io), T10 IO (io), T11 IO (io), T12 IO (io), T13 IO (io), T15 IO (io)
part B pins: L6 TDI (in), M5 TDO (out), N4 TMS (in), P3 TCK (in)
part C pins: A1 GNDIO (power), A3 VCCIO2 (power), A14 VCCIO2 (power), A16 GNDIO (power), B2 GNDIO (power), B15 GNDIO (power), C1 VCCIO1 (power), C16 VCCIO2 (power), F8 VCCIO2 (power), F9 VCCIO2 (power), G7 GNDIO (power), G8 GNDIO (power), G9 GNDIO (power), G10 GNDIO (power), H6 VCCIO1 (power), H7 GNDINT (power), H8 VCCINT (3.3V or 2.5V) (power), H9 GNDINT (power), H10 VCCINT (3.3V or 2.5V) (power), H11 VCCIO2 (power), J6 VCCIO1 (power), J7 VCCINT (3.3V or 2.5V) (power), J8 GNDINT (power), J9 VCCINT (3.3V or 2.5V) (power), J10 GNDINT (power), J11 VCCIO2 (power), K7 GNDIO (power), K8 GNDIO (power), K9 GNDIO (power), K10 GNDIO (power), L8 VCCIO1 (power), L9 VCCIO1 (power), P1 VCCIO1 (power), P16 VCCIO2 (power), R2 GNDIO (power), R15 GNDIO (power), T1 GNDIO (power), T3 VCCIO1 (power), T14 VCCIO1 (power), T16 GNDIO (power)
part D pins: D6 NC, D7 NC, D8 NC, D9 NC, D10 NC, E5 NC, E6 NC, E7 NC, E8 NC, E9 NC, E10 NC, E11 NC, E12 NC, F4 NC, F5 NC, F6 NC, F7 NC, F10 NC, F11 NC, F12 NC, G4 NC, G5 NC, G6 NC, G11 NC, G12 NC, G13 NC, H4 NC, H13 NC, J4 NC, J13 NC, K4 NC, K5 NC, K6 NC, K11 NC, K12 NC, K13 NC, L5 NC, L7 NC, L10 NC, L11 NC, L12 NC, M6 NC, M7 NC, M10 NC, M11 NC, M12 NC, N6 NC, N7 NC, N8 NC, N9 NC, N10 NC, N11 NC
part A text: BANK 2; BANK 1

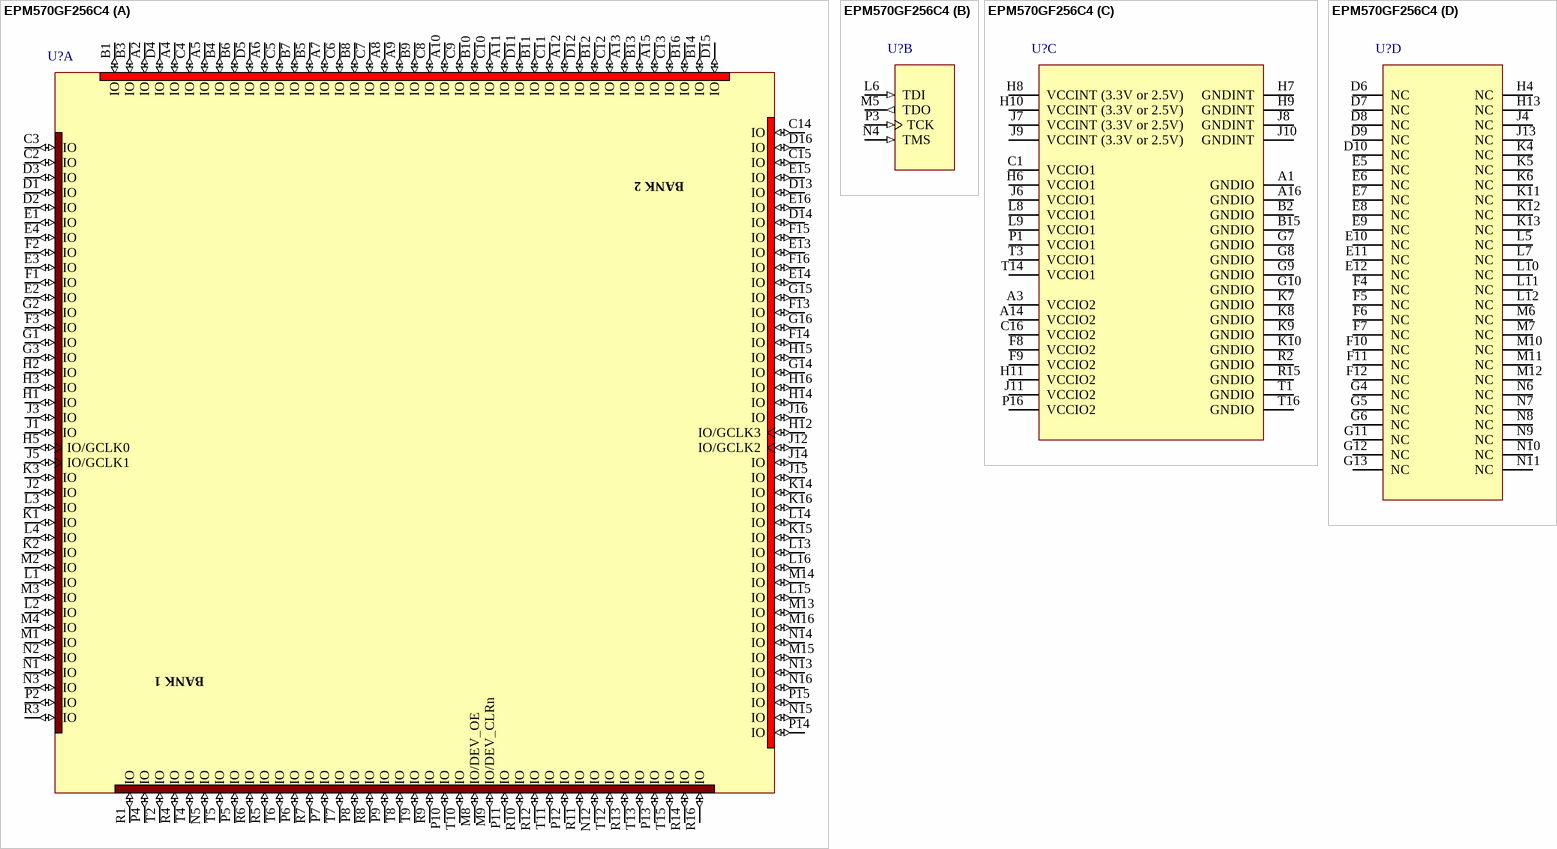
[diagram p5: symbol EPM570GF256C4]

## EPM570GF256C4
designator U?
MAX II 1.8V FPGA, 160 I/Os, 256-Pin Non-Thermally Enhanced FBGA, Commercial Temperature, Speed Grade 4; Note: Each set of VCCIO pins can be connected to 3.3V, 2.5V, 1.8V, or 1.5V.; Published: 15-Jul-2004; DatasheetDocument: ver1.1, Jun-2004; PackageDocument: Mar-2004; PackageReference: FBGA256; Publisher: Altium Limited; Code_JEDEC: MS-034-AAF-1; Code_IPC: PBGA 17X17 FE256
footprint FBGA256 (256-Pin Non-Thermally Enhanced FineLine Ball-Grid Array (FBGA))
part A pins: A2 IO (io), A4 IO (io), A5 IO (io), A6 IO (io), A7 IO (io), A8 IO (io), A9 IO (io), A10 IO (io), A11 IO (io), A12 IO (io), A13 IO (io), A15 IO (io), B1 IO (io), B3 IO (io), B4 IO (io), B5 IO (io), B6 IO (io), B7 IO (io), B8 IO (io), B9 IO (io), B10 IO (io), B11 IO (io), B12 IO (io), B13 IO (io), B14 IO (io), B16 IO (io), C2 IO (io), C3 IO (io), C4 IO (io), C5 IO (io), C6 IO (io), C7 IO (io), C8 IO (io), C9 IO (io), C10 IO (io), C11 IO (io), C12 IO (io), C13 IO (io), C14 IO (io), C15 IO (io), D1 IO (io), D2 IO (io), D3 IO (io), D4 IO (io), D5 IO (io), D11 IO (io), D12 IO (io), D13 IO (io), D14 IO (io), D15 IO (io), D16 IO (io), E1 IO (io), E2 IO (io), E3 IO (io), E4 IO (io), E13 IO (io), E14 IO (io), E15 IO (io), E16 IO (io), F1 IO (io), F2 IO (io), F3 IO (io), F13 IO (io), F14 IO (io), F15 IO (io), F16 IO (io), G1 IO (io), G2 IO (io), G3 IO (io), G14 IO (io), G15 IO (io), G16 IO (io), H1 IO (io), H2 IO (io), H3 IO (io), H5 IO/GCLK0 (io), H12 IO/GCLK3 (io), H14 IO (io), H15 IO (io), H16 IO (io), J1 IO (io), J2 IO (io), J3 IO (io), J5 IO/GCLK1 (io), J12 IO/GCLK2 (io), J14 IO (io), J15 IO (io), J16 IO (io), K1 IO (io), K2 IO (io), K3 IO (io), K14 IO (io), K15 IO (io), K16 IO (io), L1 IO (io), L2 IO (io), L3 IO (io), L4 IO (io), L13 IO (io), L14 IO (io), L15 IO (io), L16 IO (io), M1 IO (io), M2 IO (io), M3 IO (io), M4 IO (io), M8 IO/DEV_OE (io), M9 IO/DEV_CLRn (io), M13 IO (io), M14 IO (io), M15 IO (io), M16 IO (io), N1 IO (io), N2 IO (io), N3 IO (io), N5 IO (io), N12 IO (io), N13 IO (io), N14 IO (io), N15 IO (io), N16 IO (io), P2 IO (io), P4 IO (io), P5 IO (io), P6 IO (io), P7 IO (io), P8 IO (io), P9 IO (io), P10 IO (io), P11 IO (io), P12 IO (io), P13 IO (io), P14 IO (io), P15 IO (io), R1 IO (io), R3 IO (io), R4 IO (io), R5 IO (io), R6 IO (io), R7 IO (io), R8 IO (io), R9 IO (io), R10 IO (io), R11 IO (io), R12 IO (io), R13 IO (io), R14 IO (io), R16 IO (io), T2 IO (io), T4 IO (io), T5 IO (io), T6 IO (io), T7 IO (io), T8 IO (io), T9 IO (io), T10 IO (io), T11 IO (io), T12 IO (io), T13 IO (io), T15 IO (io)
part B pins: L6 TDI (in), M5 TDO (out), N4 TMS (in), P3 TCK (in)
part C pins: A1 GNDIO (power), A3 VCCIO2 (power), A14 VCCIO2 (power), A16 GNDIO (power), B2 GNDIO (power), B15 GNDIO (power), C1 VCCIO1 (power), C16 VCCIO2 (power), F8 VCCIO2 (power), F9 VCCIO2 (power), G7 GNDIO (power), G8 GNDIO (power), G9 GNDIO (power), G10 GNDIO (power), H6 VCCIO1 (power), H7 GNDINT (power), H8 VCCINT (3.3V or 2.5V) (power), H9 GNDINT (power), H10 VCCINT (3.3V or 2.5V) (power), H11 VCCIO2 (power), J6 VCCIO1 (power), J7 VCCINT (3.3V or 2.5V) (power), J8 GNDINT (power), J9 VCCINT (3.3V or 2.5V) (power), J10 GNDINT (power), J11 VCCIO2 (power), K7 GNDIO (power), K8 GNDIO (power), K9 GNDIO (power), K10 GNDIO (power), L8 VCCIO1 (power), L9 VCCIO1 (power), P1 VCCIO1 (power), P16 VCCIO2 (power), R2 GNDIO (power), R15 GNDIO (power), T1 GNDIO (power), T3 VCCIO1 (power), T14 VCCIO1 (power), T16 GNDIO (power)
part D pins: D6 NC, D7 NC, D8 NC, D9 NC, D10 NC, E5 NC, E6 NC, E7 NC, E8 NC, E9 NC, E10 NC, E11 NC, E12 NC, F4 NC, F5 NC, F6 NC, F7 NC, F10 NC, F11 NC, F12 NC, G4 NC, G5 NC, G6 NC, G11 NC, G12 NC, G13 NC, H4 NC, H13 NC, J4 NC, J13 NC, K4 NC, K5 NC, K6 NC, K11 NC, K12 NC, K13 NC, L5 NC, L7 NC, L10 NC, L11 NC, L12 NC, M6 NC, M7 NC, M10 NC, M11 NC, M12 NC, N6 NC, N7 NC, N8 NC, N9 NC, N10 NC, N11 NC
part A text: BANK 2; BANK 1

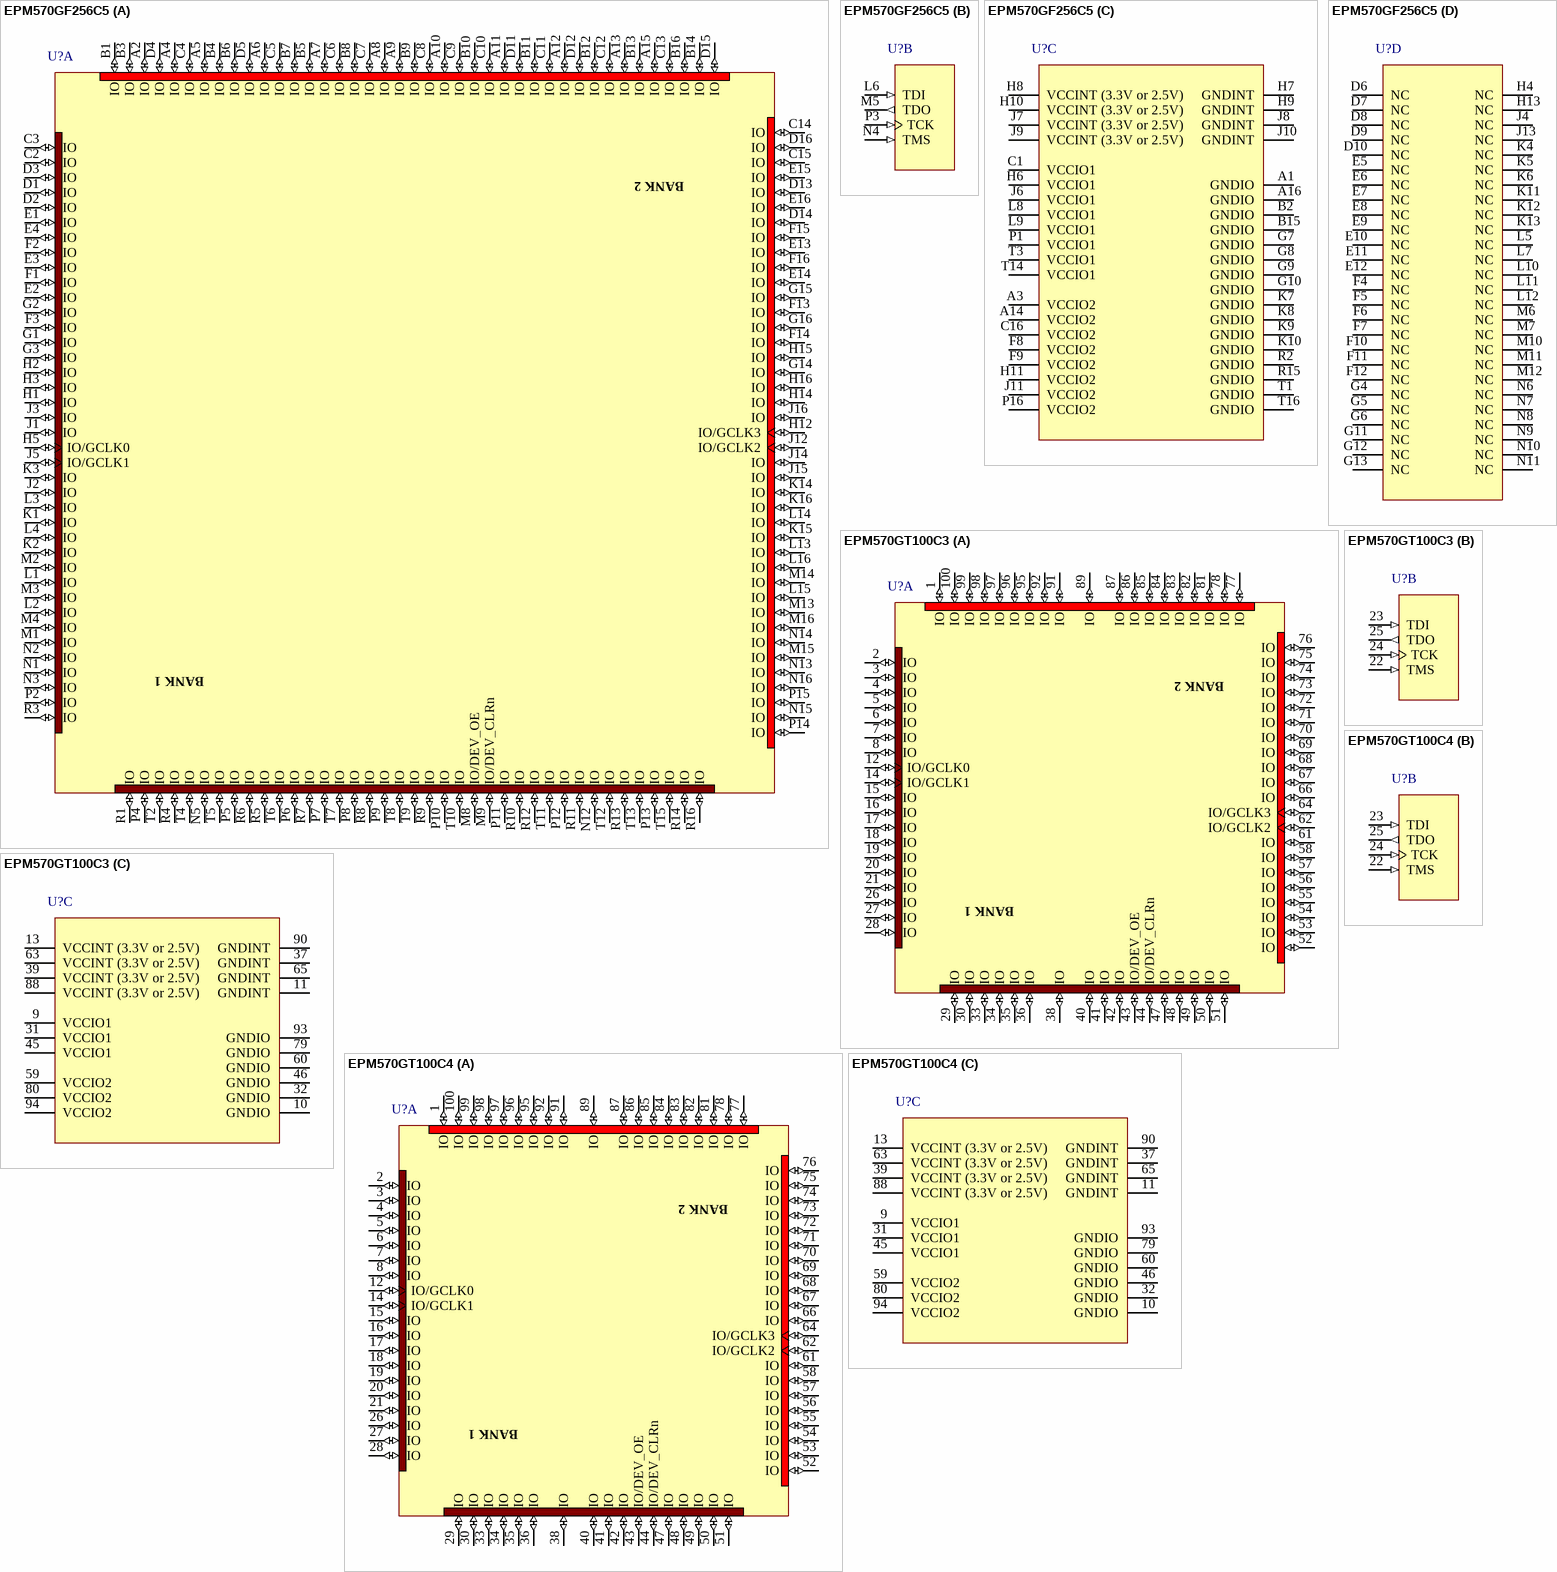
[diagram p6: symbols EPM570GF256C5 to EPM570GT100C4]

## EPM570GF256C5
designator U?
MAX II 1.8V FPGA, 160 I/Os, 256-Pin Non-Thermally Enhanced FBGA, Commercial Temperature, Speed Grade 5; Note: Each set of VCCIO pins can be connected to 3.3V, 2.5V, 1.8V, or 1.5V.; Published: 15-Jul-2004; DatasheetDocument: ver1.1, Jun-2004; PackageDocument: Mar-2004; PackageReference: FBGA256; Publisher: Altium Limited; Code_JEDEC: MS-034-AAF-1; Code_IPC: PBGA 17X17 FE256
footprint FBGA256 (256-Pin Non-Thermally Enhanced FineLine Ball-Grid Array (FBGA))
part A pins: A2 IO (io), A4 IO (io), A5 IO (io), A6 IO (io), A7 IO (io), A8 IO (io), A9 IO (io), A10 IO (io), A11 IO (io), A12 IO (io), A13 IO (io), A15 IO (io), B1 IO (io), B3 IO (io), B4 IO (io), B5 IO (io), B6 IO (io), B7 IO (io), B8 IO (io), B9 IO (io), B10 IO (io), B11 IO (io), B12 IO (io), B13 IO (io), B14 IO (io), B16 IO (io), C2 IO (io), C3 IO (io), C4 IO (io), C5 IO (io), C6 IO (io), C7 IO (io), C8 IO (io), C9 IO (io), C10 IO (io), C11 IO (io), C12 IO (io), C13 IO (io), C14 IO (io), C15 IO (io), D1 IO (io), D2 IO (io), D3 IO (io), D4 IO (io), D5 IO (io), D11 IO (io), D12 IO (io), D13 IO (io), D14 IO (io), D15 IO (io), D16 IO (io), E1 IO (io), E2 IO (io), E3 IO (io), E4 IO (io), E13 IO (io), E14 IO (io), E15 IO (io), E16 IO (io), F1 IO (io), F2 IO (io), F3 IO (io), F13 IO (io), F14 IO (io), F15 IO (io), F16 IO (io), G1 IO (io), G2 IO (io), G3 IO (io), G14 IO (io), G15 IO (io), G16 IO (io), H1 IO (io), H2 IO (io), H3 IO (io), H5 IO/GCLK0 (io), H12 IO/GCLK3 (io), H14 IO (io), H15 IO (io), H16 IO (io), J1 IO (io), J2 IO (io), J3 IO (io), J5 IO/GCLK1 (io), J12 IO/GCLK2 (io), J14 IO (io), J15 IO (io), J16 IO (io), K1 IO (io), K2 IO (io), K3 IO (io), K14 IO (io), K15 IO (io), K16 IO (io), L1 IO (io), L2 IO (io), L3 IO (io), L4 IO (io), L13 IO (io), L14 IO (io), L15 IO (io), L16 IO (io), M1 IO (io), M2 IO (io), M3 IO (io), M4 IO (io), M8 IO/DEV_OE (io), M9 IO/DEV_CLRn (io), M13 IO (io), M14 IO (io), M15 IO (io), M16 IO (io), N1 IO (io), N2 IO (io), N3 IO (io), N5 IO (io), N12 IO (io), N13 IO (io), N14 IO (io), N15 IO (io), N16 IO (io), P2 IO (io), P4 IO (io), P5 IO (io), P6 IO (io), P7 IO (io), P8 IO (io), P9 IO (io), P10 IO (io), P11 IO (io), P12 IO (io), P13 IO (io), P14 IO (io), P15 IO (io), R1 IO (io), R3 IO (io), R4 IO (io), R5 IO (io), R6 IO (io), R7 IO (io), R8 IO (io), R9 IO (io), R10 IO (io), R11 IO (io), R12 IO (io), R13 IO (io), R14 IO (io), R16 IO (io), T2 IO (io), T4 IO (io), T5 IO (io), T6 IO (io), T7 IO (io), T8 IO (io), T9 IO (io), T10 IO (io), T11 IO (io), T12 IO (io), T13 IO (io), T15 IO (io)
part B pins: L6 TDI (in), M5 TDO (out), N4 TMS (in), P3 TCK (in)
part C pins: A1 GNDIO (power), A3 VCCIO2 (power), A14 VCCIO2 (power), A16 GNDIO (power), B2 GNDIO (power), B15 GNDIO (power), C1 VCCIO1 (power), C16 VCCIO2 (power), F8 VCCIO2 (power), F9 VCCIO2 (power), G7 GNDIO (power), G8 GNDIO (power), G9 GNDIO (power), G10 GNDIO (power), H6 VCCIO1 (power), H7 GNDINT (power), H8 VCCINT (3.3V or 2.5V) (power), H9 GNDINT (power), H10 VCCINT (3.3V or 2.5V) (power), H11 VCCIO2 (power), J6 VCCIO1 (power), J7 VCCINT (3.3V or 2.5V) (power), J8 GNDINT (power), J9 VCCINT (3.3V or 2.5V) (power), J10 GNDINT (power), J11 VCCIO2 (power), K7 GNDIO (power), K8 GNDIO (power), K9 GNDIO (power), K10 GNDIO (power), L8 VCCIO1 (power), L9 VCCIO1 (power), P1 VCCIO1 (power), P16 VCCIO2 (power), R2 GNDIO (power), R15 GNDIO (power), T1 GNDIO (power), T3 VCCIO1 (power), T14 VCCIO1 (power), T16 GNDIO (power)
part D pins: D6 NC, D7 NC, D8 NC, D9 NC, D10 NC, E5 NC, E6 NC, E7 NC, E8 NC, E9 NC, E10 NC, E11 NC, E12 NC, F4 NC, F5 NC, F6 NC, F7 NC, F10 NC, F11 NC, F12 NC, G4 NC, G5 NC, G6 NC, G11 NC, G12 NC, G13 NC, H4 NC, H13 NC, J4 NC, J13 NC, K4 NC, K5 NC, K6 NC, K11 NC, K12 NC, K13 NC, L5 NC, L7 NC, L10 NC, L11 NC, L12 NC, M6 NC, M7 NC, M10 NC, M11 NC, M12 NC, N6 NC, N7 NC, N8 NC, N9 NC, N10 NC, N11 NC
part A text: BANK 2; BANK 1

## EPM570GT100C3
designator U?
MAX II 1.8V FPGA, 76 I/Os, 100-Pin Plastic TQFP, Commercial Temperature, Speed Grade 3; Note: Each set of VCCIO pins can be connected to 3.3V, 2.5V, 1.8V, or 1.5V.; Published: 15-Jul-2004; DatasheetDocument: ver1.1, Jun-2004; PackageDocument: Mar-2004; PackageReference: TQFP100; Publisher: Altium Limited; Code_JEDEC: MS-026-BDE; Code_IPC: SQFP14X14-100
footprint TQFP100 (100-Pin Plastic Thin Quad Flat Pack (TQFP))
part A pins: 1 IO (io), 2 IO (io), 3 IO (io), 4 IO (io), 5 IO (io), 6 IO (io), 7 IO (io), 8 IO (io), 12 IO/GCLK0 (io), 14 IO/GCLK1 (io), 15 IO (io), 16 IO (io), 17 IO (io), 18 IO (io), 19 IO (io), 20 IO (io), 21 IO (io), 26 IO (io), 27 IO (io), 28 IO (io), 29 IO (io), 30 IO (io), 33 IO (io), 34 IO (io), 35 IO (io), 36 IO (io), 38 IO (io), 40 IO (io), 41 IO (io), 42 IO (io), 43 IO/DEV_OE (io), 44 IO/DEV_CLRn (io), 47 IO (io), 48 IO (io), 49 IO (io), 50 IO (io), 51 IO (io), 52 IO (io), 53 IO (io), 54 IO (io), 55 IO (io), 56 IO (io), 57 IO (io), 58 IO (io), 61 IO (io), 62 IO/GCLK2 (io), 64 IO/GCLK3 (io), 66 IO (io), 67 IO (io), 68 IO (io), 69 IO (io), 70 IO (io), 71 IO (io), 72 IO (io), 73 IO (io), 74 IO (io), 75 IO (io), 76 IO (io), 77 IO (io), 78 IO (io), 81 IO (io), 82 IO (io), 83 IO (io), 84 IO (io), 85 IO (io), 86 IO (io), 87 IO (io), 89 IO (io), 91 IO (io), 92 IO (io), 95 IO (io), 96 IO (io), 97 IO (io), 98 IO (io), 99 IO (io), 100 IO (io)
part B pins: 22 TMS (in), 23 TDI (in), 24 TCK (in), 25 TDO (out)
part C pins: 9 VCCIO1 (power), 10 GNDIO (power), 11 GNDINT (power), 13 VCCINT (3.3V or 2.5V) (power), 31 VCCIO1 (power), 32 GNDIO (power), 37 GNDINT (power), 39 VCCINT (3.3V or 2.5V) (power), 45 VCCIO1 (power), 46 GNDIO (power), 59 VCCIO2 (power), 60 GNDIO (power), 63 VCCINT (3.3V or 2.5V) (power), 65 GNDINT (power), 79 GNDIO (power), 80 VCCIO2 (power), 88 VCCINT (3.3V or 2.5V) (power), 90 GNDINT (power), 93 GNDIO (power), 94 VCCIO2 (power)
part A text: BANK 2; BANK 1

## EPM570GT100C4
designator U?
MAX II 1.8V FPGA, 76 I/Os, 100-Pin Plastic TQFP, Commercial Temperature, Speed Grade 4; Note: Each set of VCCIO pins can be connected to 3.3V, 2.5V, 1.8V, or 1.5V.; Published: 15-Jul-2004; DatasheetDocument: ver1.1, Jun-2004; PackageDocument: Mar-2004; PackageReference: TQFP100; Publisher: Altium Limited; Code_JEDEC: MS-026-BDE; Code_IPC: SQFP14X14-100
footprint TQFP100 (100-Pin Plastic Thin Quad Flat Pack (TQFP))
part A pins: 1 IO (io), 2 IO (io), 3 IO (io), 4 IO (io), 5 IO (io), 6 IO (io), 7 IO (io), 8 IO (io), 12 IO/GCLK0 (io), 14 IO/GCLK1 (io), 15 IO (io), 16 IO (io), 17 IO (io), 18 IO (io), 19 IO (io), 20 IO (io), 21 IO (io), 26 IO (io), 27 IO (io), 28 IO (io), 29 IO (io), 30 IO (io), 33 IO (io), 34 IO (io), 35 IO (io), 36 IO (io), 38 IO (io), 40 IO (io), 41 IO (io), 42 IO (io), 43 IO/DEV_OE (io), 44 IO/DEV_CLRn (io), 47 IO (io), 48 IO (io), 49 IO (io), 50 IO (io), 51 IO (io), 52 IO (io), 53 IO (io), 54 IO (io), 55 IO (io), 56 IO (io), 57 IO (io), 58 IO (io), 61 IO (io), 62 IO/GCLK2 (io), 64 IO/GCLK3 (io), 66 IO (io), 67 IO (io), 68 IO (io), 69 IO (io), 70 IO (io), 71 IO (io), 72 IO (io), 73 IO (io), 74 IO (io), 75 IO (io), 76 IO (io), 77 IO (io), 78 IO (io), 81 IO (io), 82 IO (io), 83 IO (io), 84 IO (io), 85 IO (io), 86 IO (io), 87 IO (io), 89 IO (io), 91 IO (io), 92 IO (io), 95 IO (io), 96 IO (io), 97 IO (io), 98 IO (io), 99 IO (io), 100 IO (io)
part B pins: 22 TMS (in), 23 TDI (in), 24 TCK (in), 25 TDO (out)
part C pins: 9 VCCIO1 (power), 10 GNDIO (power), 11 GNDINT (power), 13 VCCINT (3.3V or 2.5V) (power), 31 VCCIO1 (power), 32 GNDIO (power), 37 GNDINT (power), 39 VCCINT (3.3V or 2.5V) (power), 45 VCCIO1 (power), 46 GNDIO (power), 59 VCCIO2 (power), 60 GNDIO (power), 63 VCCINT (3.3V or 2.5V) (power), 65 GNDINT (power), 79 GNDIO (power), 80 VCCIO2 (power), 88 VCCINT (3.3V or 2.5V) (power), 90 GNDINT (power), 93 GNDIO (power), 94 VCCIO2 (power)
part A text: BANK 2; BANK 1

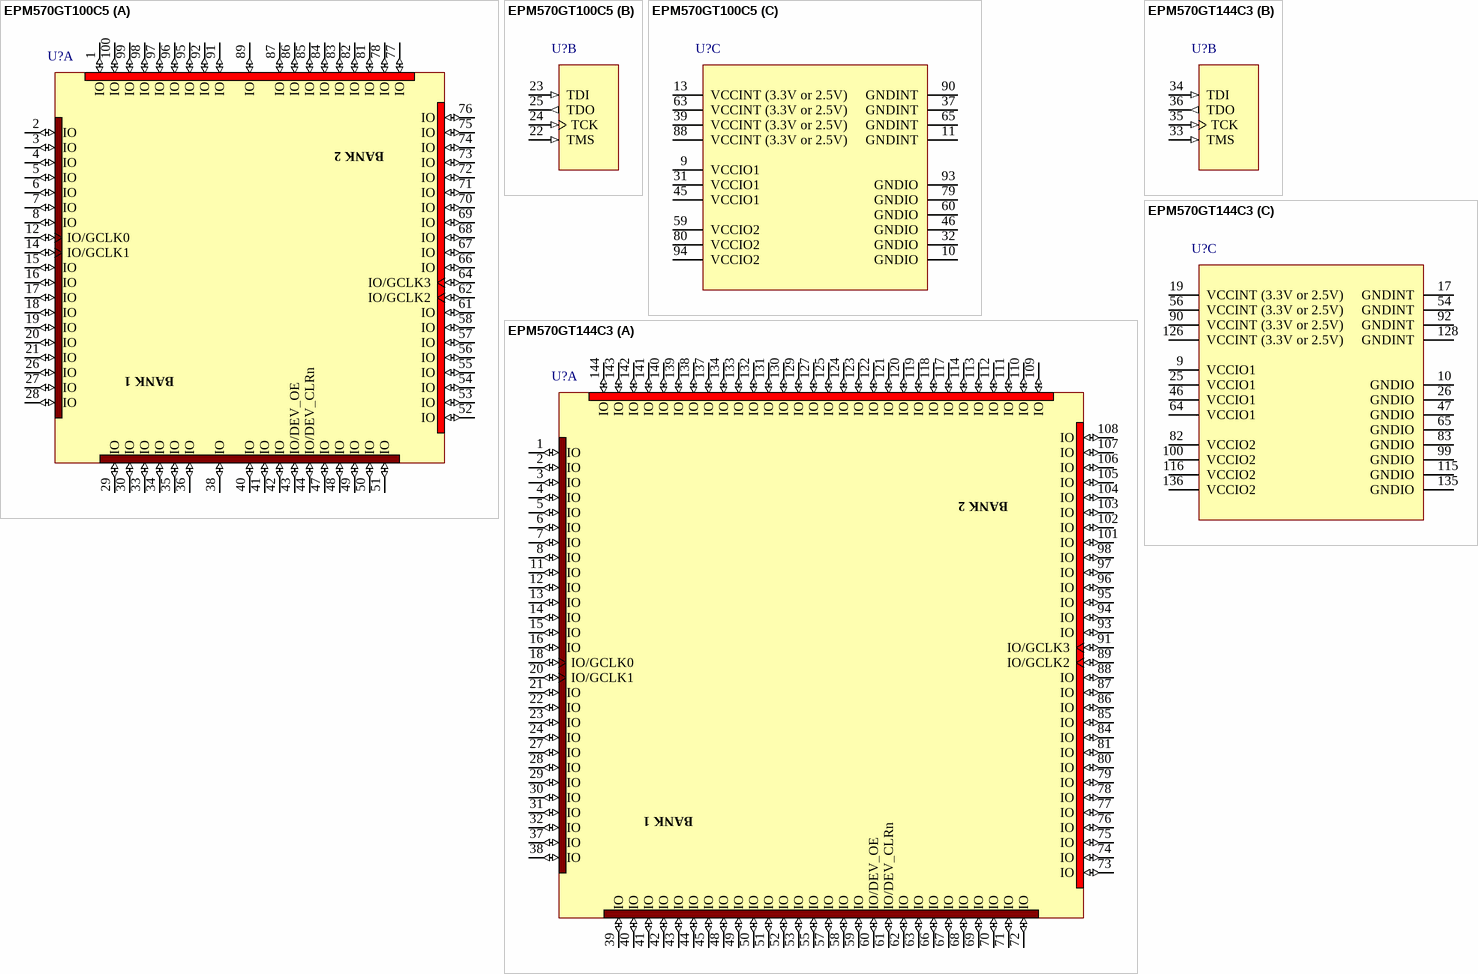
[diagram p7: symbols EPM570GT100C5 to EPM570GT144C3]

## EPM570GT100C5
designator U?
MAX II 1.8V FPGA, 76 I/Os, 100-Pin Plastic TQFP, Commercial Temperature, Speed Grade 5; Note: Each set of VCCIO pins can be connected to 3.3V, 2.5V, 1.8V, or 1.5V.; Published: 15-Jul-2004; DatasheetDocument: ver1.1, Jun-2004; PackageDocument: Mar-2004; PackageReference: TQFP100; Publisher: Altium Limited; Code_JEDEC: MS-026-BDE; Code_IPC: SQFP14X14-100
footprint TQFP100 (100-Pin Plastic Thin Quad Flat Pack (TQFP))
part A pins: 1 IO (io), 2 IO (io), 3 IO (io), 4 IO (io), 5 IO (io), 6 IO (io), 7 IO (io), 8 IO (io), 12 IO/GCLK0 (io), 14 IO/GCLK1 (io), 15 IO (io), 16 IO (io), 17 IO (io), 18 IO (io), 19 IO (io), 20 IO (io), 21 IO (io), 26 IO (io), 27 IO (io), 28 IO (io), 29 IO (io), 30 IO (io), 33 IO (io), 34 IO (io), 35 IO (io), 36 IO (io), 38 IO (io), 40 IO (io), 41 IO (io), 42 IO (io), 43 IO/DEV_OE (io), 44 IO/DEV_CLRn (io), 47 IO (io), 48 IO (io), 49 IO (io), 50 IO (io), 51 IO (io), 52 IO (io), 53 IO (io), 54 IO (io), 55 IO (io), 56 IO (io), 57 IO (io), 58 IO (io), 61 IO (io), 62 IO/GCLK2 (io), 64 IO/GCLK3 (io), 66 IO (io), 67 IO (io), 68 IO (io), 69 IO (io), 70 IO (io), 71 IO (io), 72 IO (io), 73 IO (io), 74 IO (io), 75 IO (io), 76 IO (io), 77 IO (io), 78 IO (io), 81 IO (io), 82 IO (io), 83 IO (io), 84 IO (io), 85 IO (io), 86 IO (io), 87 IO (io), 89 IO (io), 91 IO (io), 92 IO (io), 95 IO (io), 96 IO (io), 97 IO (io), 98 IO (io), 99 IO (io), 100 IO (io)
part B pins: 22 TMS (in), 23 TDI (in), 24 TCK (in), 25 TDO (out)
part C pins: 9 VCCIO1 (power), 10 GNDIO (power), 11 GNDINT (power), 13 VCCINT (3.3V or 2.5V) (power), 31 VCCIO1 (power), 32 GNDIO (power), 37 GNDINT (power), 39 VCCINT (3.3V or 2.5V) (power), 45 VCCIO1 (power), 46 GNDIO (power), 59 VCCIO2 (power), 60 GNDIO (power), 63 VCCINT (3.3V or 2.5V) (power), 65 GNDINT (power), 79 GNDIO (power), 80 VCCIO2 (power), 88 VCCINT (3.3V or 2.5V) (power), 90 GNDINT (power), 93 GNDIO (power), 94 VCCIO2 (power)
part A text: BANK 2; BANK 1

## EPM570GT144C3
designator U?
MAX II 1.8V FPGA, 116 I/Os, 144-Pin Plastic TQFP, Commercial Temperature, Speed Grade 3; Note: Each set of VCCIO pins can be connected to 3.3V, 2.5V, 1.8V, or 1.5V.; Published: 15-Jul-2004; DatasheetDocument: ver1.1, Jun-2004; PackageDocument: Mar-2004; PackageReference: TQFP144; Publisher: Altium Limited; Code_JEDEC: MS-026-BFB; Code_IPC: SQFP20X20-144
footprint TQFP144 (144-Pin Plastic Thin Quad Flat Pack (TQFP))
part A pins: 1 IO (io), 2 IO (io), 3 IO (io), 4 IO (io), 5 IO (io), 6 IO (io), 7 IO (io), 8 IO (io), 11 IO (io), 12 IO (io), 13 IO (io), 14 IO (io), 15 IO (io), 16 IO (io), 18 IO/GCLK0 (io), 20 IO/GCLK1 (io), 21 IO (io), 22 IO (io), 23 IO (io), 24 IO (io), 27 IO (io), 28 IO (io), 29 IO (io), 30 IO (io), 31 IO (io), 32 IO (io), 37 IO (io), 38 IO (io), 39 IO (io), 40 IO (io), 41 IO (io), 42 IO (io), 43 IO (io), 44 IO (io), 45 IO (io), 48 IO (io), 49 IO (io), 50 IO (io), 51 IO (io), 52 IO (io), 53 IO (io), 55 IO (io), 57 IO (io), 58 IO (io), 59 IO (io), 60 IO/DEV_OE (io), 61 IO/DEV_CLRn (io), 62 IO (io), 63 IO (io), 66 IO (io), 67 IO (io), 68 IO (io), 69 IO (io), 70 IO (io), 71 IO (io), 72 IO (io), 73 IO (io), 74 IO (io), 75 IO (io), 76 IO (io), 77 IO (io), 78 IO (io), 79 IO (io), 80 IO (io), 81 IO (io), 84 IO (io), 85 IO (io), 86 IO (io), 87 IO (io), 88 IO (io), 89 IO/GCLK2 (io), 91 IO/GCLK3 (io), 93 IO (io), 94 IO (io), 95 IO (io), 96 IO (io), 97 IO (io), 98 IO (io), 101 IO (io), 102 IO (io), 103 IO (io), 104 IO (io), 105 IO (io), 106 IO (io), 107 IO (io), 108 IO (io), 109 IO (io), 110 IO (io), 111 IO (io), 112 IO (io), 113 IO (io), 114 IO (io), 117 IO (io), 118 IO (io), 119 IO (io), 120 IO (io), 121 IO (io), 122 IO (io), 123 IO (io), 124 IO (io), 125 IO (io), 127 IO (io), 129 IO (io), 130 IO (io), 131 IO (io), 132 IO (io), 133 IO (io), 134 IO (io), 137 IO (io), 138 IO (io), 139 IO (io), 140 IO (io), 141 IO (io), 142 IO (io), 143 IO (io), 144 IO (io)
part B pins: 33 TMS (in), 34 TDI (in), 35 TCK (in), 36 TDO (out)
part C pins: 9 VCCIO1 (power), 10 GNDIO (power), 17 GNDINT (power), 19 VCCINT (3.3V or 2.5V) (power), 25 VCCIO1 (power), 26 GNDIO (power), 46 VCCIO1 (power), 47 GNDIO (power), 54 GNDINT (power), 56 VCCINT (3.3V or 2.5V) (power), 64 VCCIO1 (power), 65 GNDIO (power), 82 VCCIO2 (power), 83 GNDIO (power), 90 VCCINT (3.3V or 2.5V) (power), 92 GNDINT (power), 99 GNDIO (power), 100 VCCIO2 (power), 115 GNDIO (power), 116 VCCIO2 (power), 126 VCCINT (3.3V or 2.5V) (power), 128 GNDINT (power), 135 GNDIO (power), 136 VCCIO2 (power)
part A text: BANK 2; BANK 1

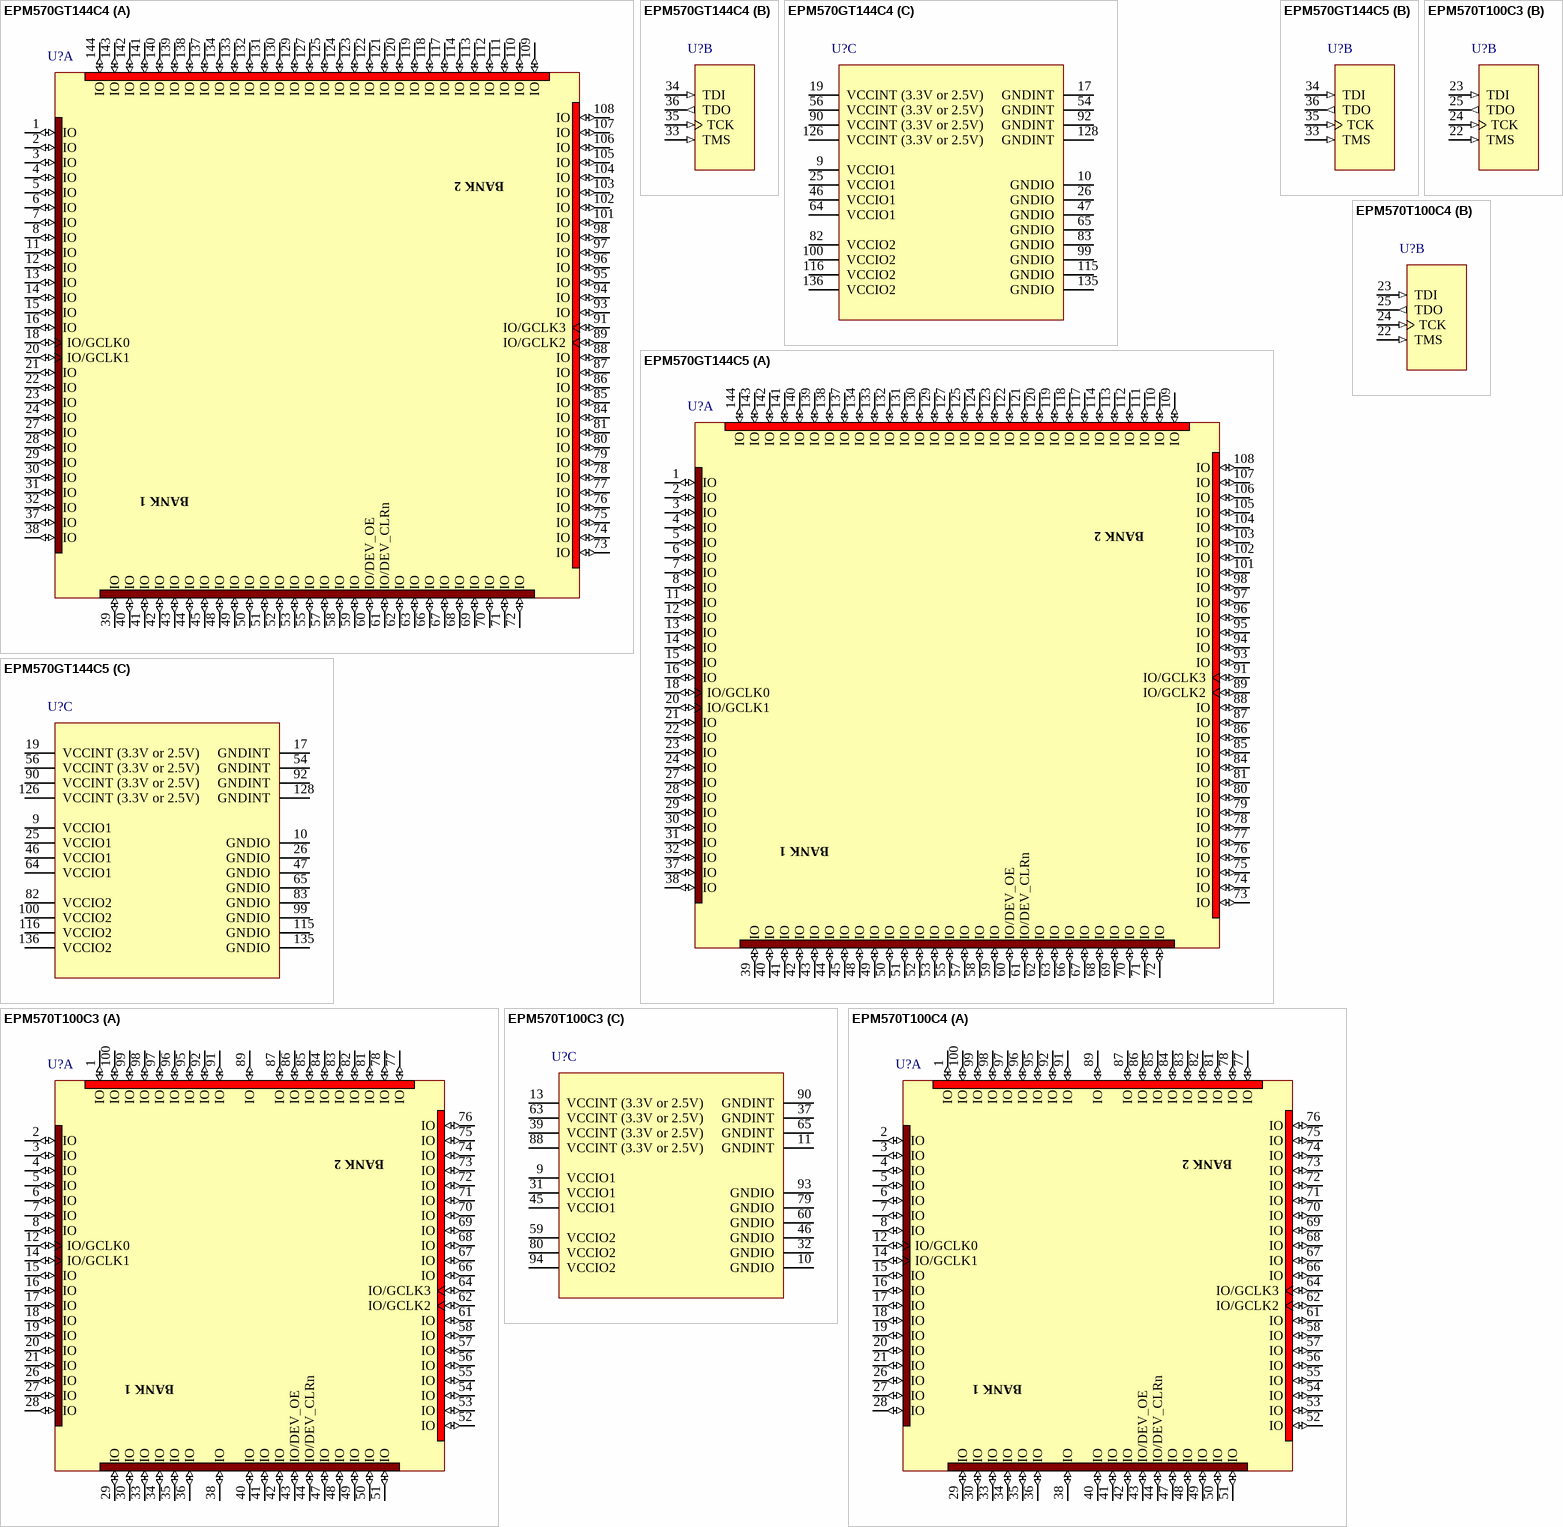
[diagram p8: symbols EPM570GT144C4 to EPM570T100C4]

## EPM570GT144C4
designator U?
MAX II 1.8V FPGA, 116 I/Os, 144-Pin Plastic TQFP, Commercial Temperature, Speed Grade 4; Note: Each set of VCCIO pins can be connected to 3.3V, 2.5V, 1.8V, or 1.5V.; Published: 15-Jul-2004; DatasheetDocument: ver1.1, Jun-2004; PackageDocument: Mar-2004; PackageReference: TQFP144; Publisher: Altium Limited; Code_JEDEC: MS-026-BFB; Code_IPC: SQFP20X20-144
footprint TQFP144 (144-Pin Plastic Thin Quad Flat Pack (TQFP))
part A pins: 1 IO (io), 2 IO (io), 3 IO (io), 4 IO (io), 5 IO (io), 6 IO (io), 7 IO (io), 8 IO (io), 11 IO (io), 12 IO (io), 13 IO (io), 14 IO (io), 15 IO (io), 16 IO (io), 18 IO/GCLK0 (io), 20 IO/GCLK1 (io), 21 IO (io), 22 IO (io), 23 IO (io), 24 IO (io), 27 IO (io), 28 IO (io), 29 IO (io), 30 IO (io), 31 IO (io), 32 IO (io), 37 IO (io), 38 IO (io), 39 IO (io), 40 IO (io), 41 IO (io), 42 IO (io), 43 IO (io), 44 IO (io), 45 IO (io), 48 IO (io), 49 IO (io), 50 IO (io), 51 IO (io), 52 IO (io), 53 IO (io), 55 IO (io), 57 IO (io), 58 IO (io), 59 IO (io), 60 IO/DEV_OE (io), 61 IO/DEV_CLRn (io), 62 IO (io), 63 IO (io), 66 IO (io), 67 IO (io), 68 IO (io), 69 IO (io), 70 IO (io), 71 IO (io), 72 IO (io), 73 IO (io), 74 IO (io), 75 IO (io), 76 IO (io), 77 IO (io), 78 IO (io), 79 IO (io), 80 IO (io), 81 IO (io), 84 IO (io), 85 IO (io), 86 IO (io), 87 IO (io), 88 IO (io), 89 IO/GCLK2 (io), 91 IO/GCLK3 (io), 93 IO (io), 94 IO (io), 95 IO (io), 96 IO (io), 97 IO (io), 98 IO (io), 101 IO (io), 102 IO (io), 103 IO (io), 104 IO (io), 105 IO (io), 106 IO (io), 107 IO (io), 108 IO (io), 109 IO (io), 110 IO (io), 111 IO (io), 112 IO (io), 113 IO (io), 114 IO (io), 117 IO (io), 118 IO (io), 119 IO (io), 120 IO (io), 121 IO (io), 122 IO (io), 123 IO (io), 124 IO (io), 125 IO (io), 127 IO (io), 129 IO (io), 130 IO (io), 131 IO (io), 132 IO (io), 133 IO (io), 134 IO (io), 137 IO (io), 138 IO (io), 139 IO (io), 140 IO (io), 141 IO (io), 142 IO (io), 143 IO (io), 144 IO (io)
part B pins: 33 TMS (in), 34 TDI (in), 35 TCK (in), 36 TDO (out)
part C pins: 9 VCCIO1 (power), 10 GNDIO (power), 17 GNDINT (power), 19 VCCINT (3.3V or 2.5V) (power), 25 VCCIO1 (power), 26 GNDIO (power), 46 VCCIO1 (power), 47 GNDIO (power), 54 GNDINT (power), 56 VCCINT (3.3V or 2.5V) (power), 64 VCCIO1 (power), 65 GNDIO (power), 82 VCCIO2 (power), 83 GNDIO (power), 90 VCCINT (3.3V or 2.5V) (power), 92 GNDINT (power), 99 GNDIO (power), 100 VCCIO2 (power), 115 GNDIO (power), 116 VCCIO2 (power), 126 VCCINT (3.3V or 2.5V) (power), 128 GNDINT (power), 135 GNDIO (power), 136 VCCIO2 (power)
part A text: BANK 2; BANK 1

## EPM570GT144C5
designator U?
MAX II 1.8V FPGA, 116 I/Os, 144-Pin Plastic TQFP, Commercial Temperature, Speed Grade 5; Note: Each set of VCCIO pins can be connected to 3.3V, 2.5V, 1.8V, or 1.5V.; Published: 15-Jul-2004; DatasheetDocument: ver1.1, Jun-2004; PackageDocument: Mar-2004; PackageReference: TQFP144; Publisher: Altium Limited; Code_JEDEC: MS-026-BFB; Code_IPC: SQFP20X20-144
footprint TQFP144 (144-Pin Plastic Thin Quad Flat Pack (TQFP))
part A pins: 1 IO (io), 2 IO (io), 3 IO (io), 4 IO (io), 5 IO (io), 6 IO (io), 7 IO (io), 8 IO (io), 11 IO (io), 12 IO (io), 13 IO (io), 14 IO (io), 15 IO (io), 16 IO (io), 18 IO/GCLK0 (io), 20 IO/GCLK1 (io), 21 IO (io), 22 IO (io), 23 IO (io), 24 IO (io), 27 IO (io), 28 IO (io), 29 IO (io), 30 IO (io), 31 IO (io), 32 IO (io), 37 IO (io), 38 IO (io), 39 IO (io), 40 IO (io), 41 IO (io), 42 IO (io), 43 IO (io), 44 IO (io), 45 IO (io), 48 IO (io), 49 IO (io), 50 IO (io), 51 IO (io), 52 IO (io), 53 IO (io), 55 IO (io), 57 IO (io), 58 IO (io), 59 IO (io), 60 IO/DEV_OE (io), 61 IO/DEV_CLRn (io), 62 IO (io), 63 IO (io), 66 IO (io), 67 IO (io), 68 IO (io), 69 IO (io), 70 IO (io), 71 IO (io), 72 IO (io), 73 IO (io), 74 IO (io), 75 IO (io), 76 IO (io), 77 IO (io), 78 IO (io), 79 IO (io), 80 IO (io), 81 IO (io), 84 IO (io), 85 IO (io), 86 IO (io), 87 IO (io), 88 IO (io), 89 IO/GCLK2 (io), 91 IO/GCLK3 (io), 93 IO (io), 94 IO (io), 95 IO (io), 96 IO (io), 97 IO (io), 98 IO (io), 101 IO (io), 102 IO (io), 103 IO (io), 104 IO (io), 105 IO (io), 106 IO (io), 107 IO (io), 108 IO (io), 109 IO (io), 110 IO (io), 111 IO (io), 112 IO (io), 113 IO (io), 114 IO (io), 117 IO (io), 118 IO (io), 119 IO (io), 120 IO (io), 121 IO (io), 122 IO (io), 123 IO (io), 124 IO (io), 125 IO (io), 127 IO (io), 129 IO (io), 130 IO (io), 131 IO (io), 132 IO (io), 133 IO (io), 134 IO (io), 137 IO (io), 138 IO (io), 139 IO (io), 140 IO (io), 141 IO (io), 142 IO (io), 143 IO (io), 144 IO (io)
part B pins: 33 TMS (in), 34 TDI (in), 35 TCK (in), 36 TDO (out)
part C pins: 9 VCCIO1 (power), 10 GNDIO (power), 17 GNDINT (power), 19 VCCINT (3.3V or 2.5V) (power), 25 VCCIO1 (power), 26 GNDIO (power), 46 VCCIO1 (power), 47 GNDIO (power), 54 GNDINT (power), 56 VCCINT (3.3V or 2.5V) (power), 64 VCCIO1 (power), 65 GNDIO (power), 82 VCCIO2 (power), 83 GNDIO (power), 90 VCCINT (3.3V or 2.5V) (power), 92 GNDINT (power), 99 GNDIO (power), 100 VCCIO2 (power), 115 GNDIO (power), 116 VCCIO2 (power), 126 VCCINT (3.3V or 2.5V) (power), 128 GNDINT (power), 135 GNDIO (power), 136 VCCIO2 (power)
part A text: BANK 2; BANK 1

## EPM570T100C3
designator U?
MAX II 2.5/3.3V FPGA, 76 I/Os, 100-Pin Plastic TQFP, Commercial Temperature, Speed Grade 3; Note: Each set of VCCIO pins can be connected to 3.3V, 2.5V, 1.8V, or 1.5V.; Published: 15-Jul-2004; DatasheetDocument: ver1.1, Jun-2004; PackageDocument: Mar-2004; PackageReference: TQFP100; Publisher: Altium Limited; Code_JEDEC: MS-026-BDE; Code_IPC: SQFP14X14-100
footprint TQFP100 (100-Pin Plastic Thin Quad Flat Pack (TQFP))
part A pins: 1 IO (io), 2 IO (io), 3 IO (io), 4 IO (io), 5 IO (io), 6 IO (io), 7 IO (io), 8 IO (io), 12 IO/GCLK0 (io), 14 IO/GCLK1 (io), 15 IO (io), 16 IO (io), 17 IO (io), 18 IO (io), 19 IO (io), 20 IO (io), 21 IO (io), 26 IO (io), 27 IO (io), 28 IO (io), 29 IO (io), 30 IO (io), 33 IO (io), 34 IO (io), 35 IO (io), 36 IO (io), 38 IO (io), 40 IO (io), 41 IO (io), 42 IO (io), 43 IO/DEV_OE (io), 44 IO/DEV_CLRn (io), 47 IO (io), 48 IO (io), 49 IO (io), 50 IO (io), 51 IO (io), 52 IO (io), 53 IO (io), 54 IO (io), 55 IO (io), 56 IO (io), 57 IO (io), 58 IO (io), 61 IO (io), 62 IO/GCLK2 (io), 64 IO/GCLK3 (io), 66 IO (io), 67 IO (io), 68 IO (io), 69 IO (io), 70 IO (io), 71 IO (io), 72 IO (io), 73 IO (io), 74 IO (io), 75 IO (io), 76 IO (io), 77 IO (io), 78 IO (io), 81 IO (io), 82 IO (io), 83 IO (io), 84 IO (io), 85 IO (io), 86 IO (io), 87 IO (io), 89 IO (io), 91 IO (io), 92 IO (io), 95 IO (io), 96 IO (io), 97 IO (io), 98 IO (io), 99 IO (io), 100 IO (io)
part B pins: 22 TMS (in), 23 TDI (in), 24 TCK (in), 25 TDO (out)
part C pins: 9 VCCIO1 (power), 10 GNDIO (power), 11 GNDINT (power), 13 VCCINT (3.3V or 2.5V) (power), 31 VCCIO1 (power), 32 GNDIO (power), 37 GNDINT (power), 39 VCCINT (3.3V or 2.5V) (power), 45 VCCIO1 (power), 46 GNDIO (power), 59 VCCIO2 (power), 60 GNDIO (power), 63 VCCINT (3.3V or 2.5V) (power), 65 GNDINT (power), 79 GNDIO (power), 80 VCCIO2 (power), 88 VCCINT (3.3V or 2.5V) (power), 90 GNDINT (power), 93 GNDIO (power), 94 VCCIO2 (power)
part A text: BANK 2; BANK 1

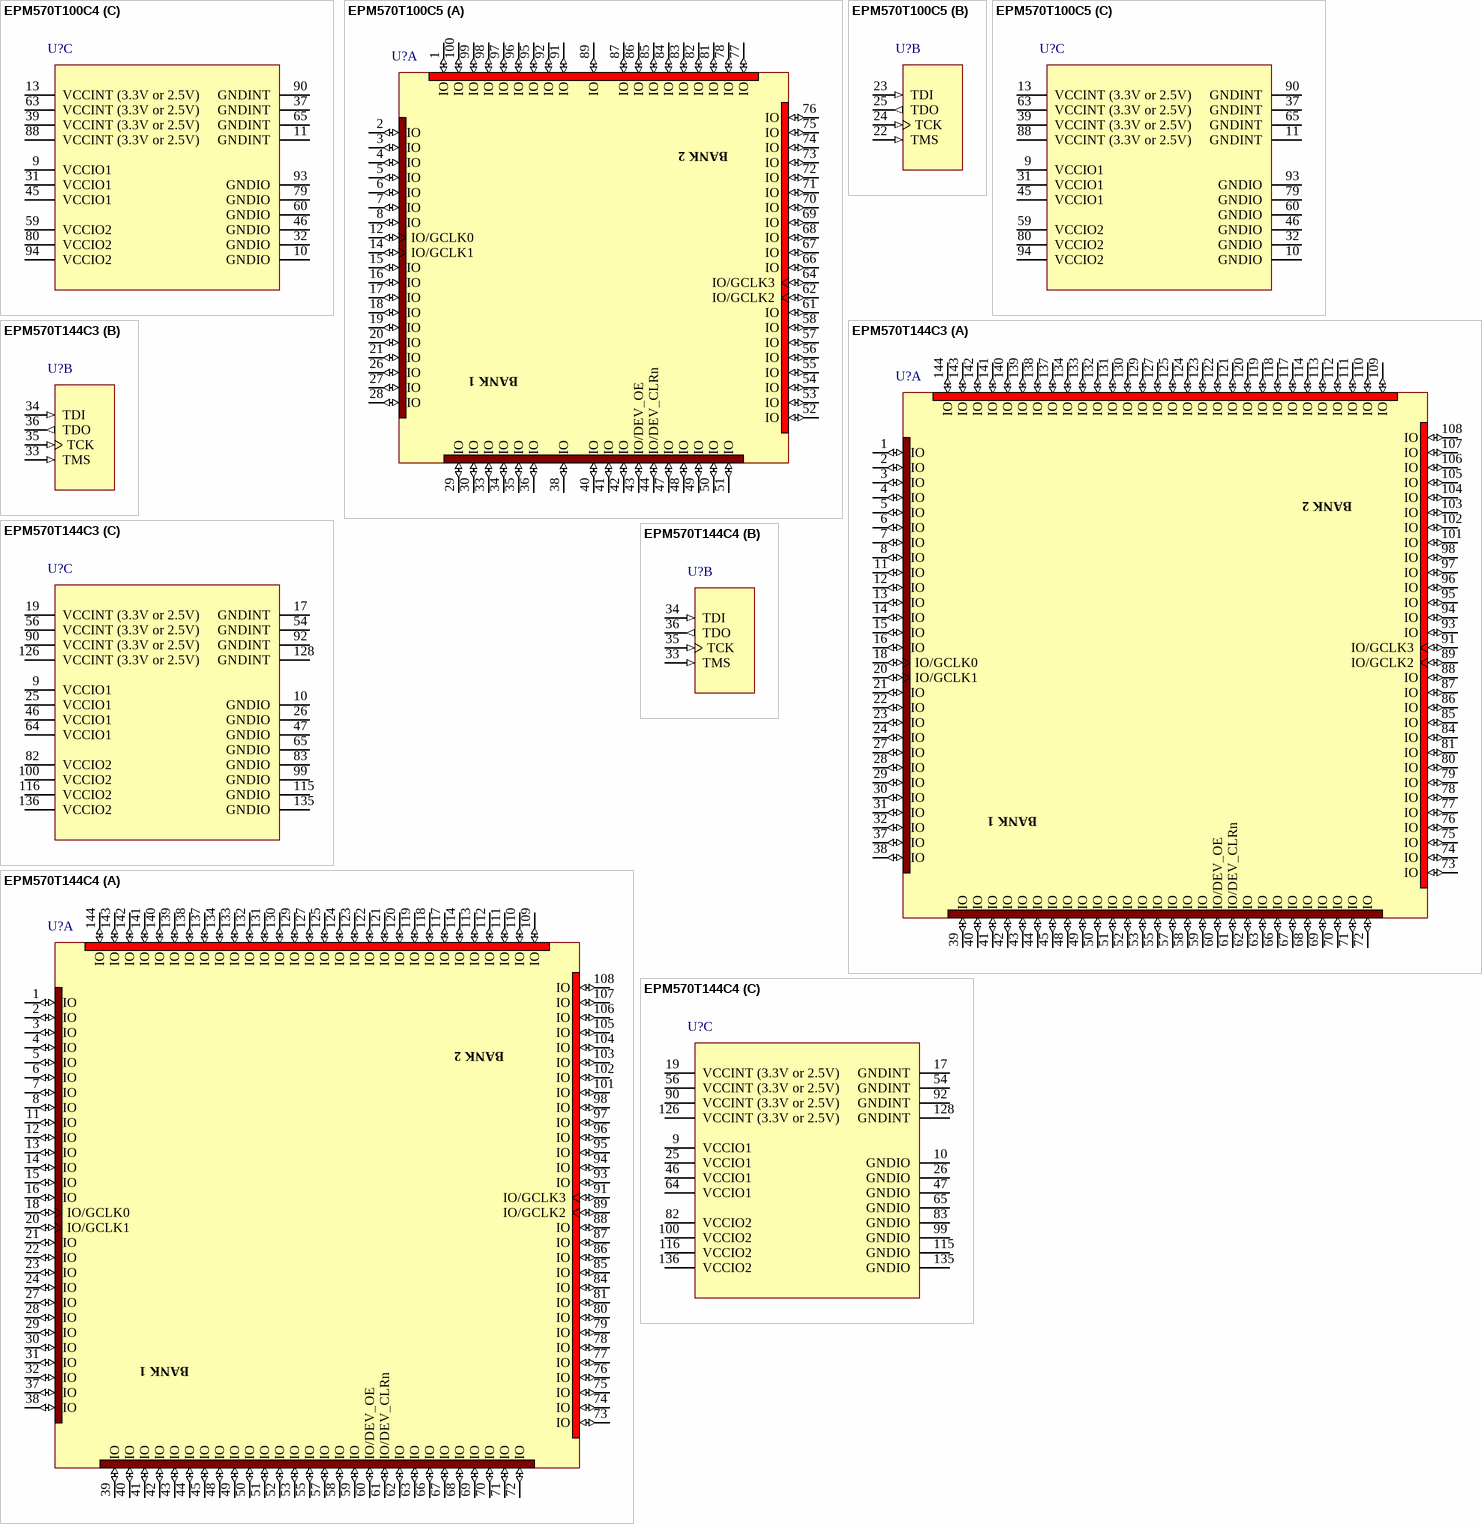
[diagram p9: symbols EPM570T100C4 to EPM570T144C4]